# Altium integrated library Actel ProASIC3E.IntLib: 182 symbols (part 14 of 52)
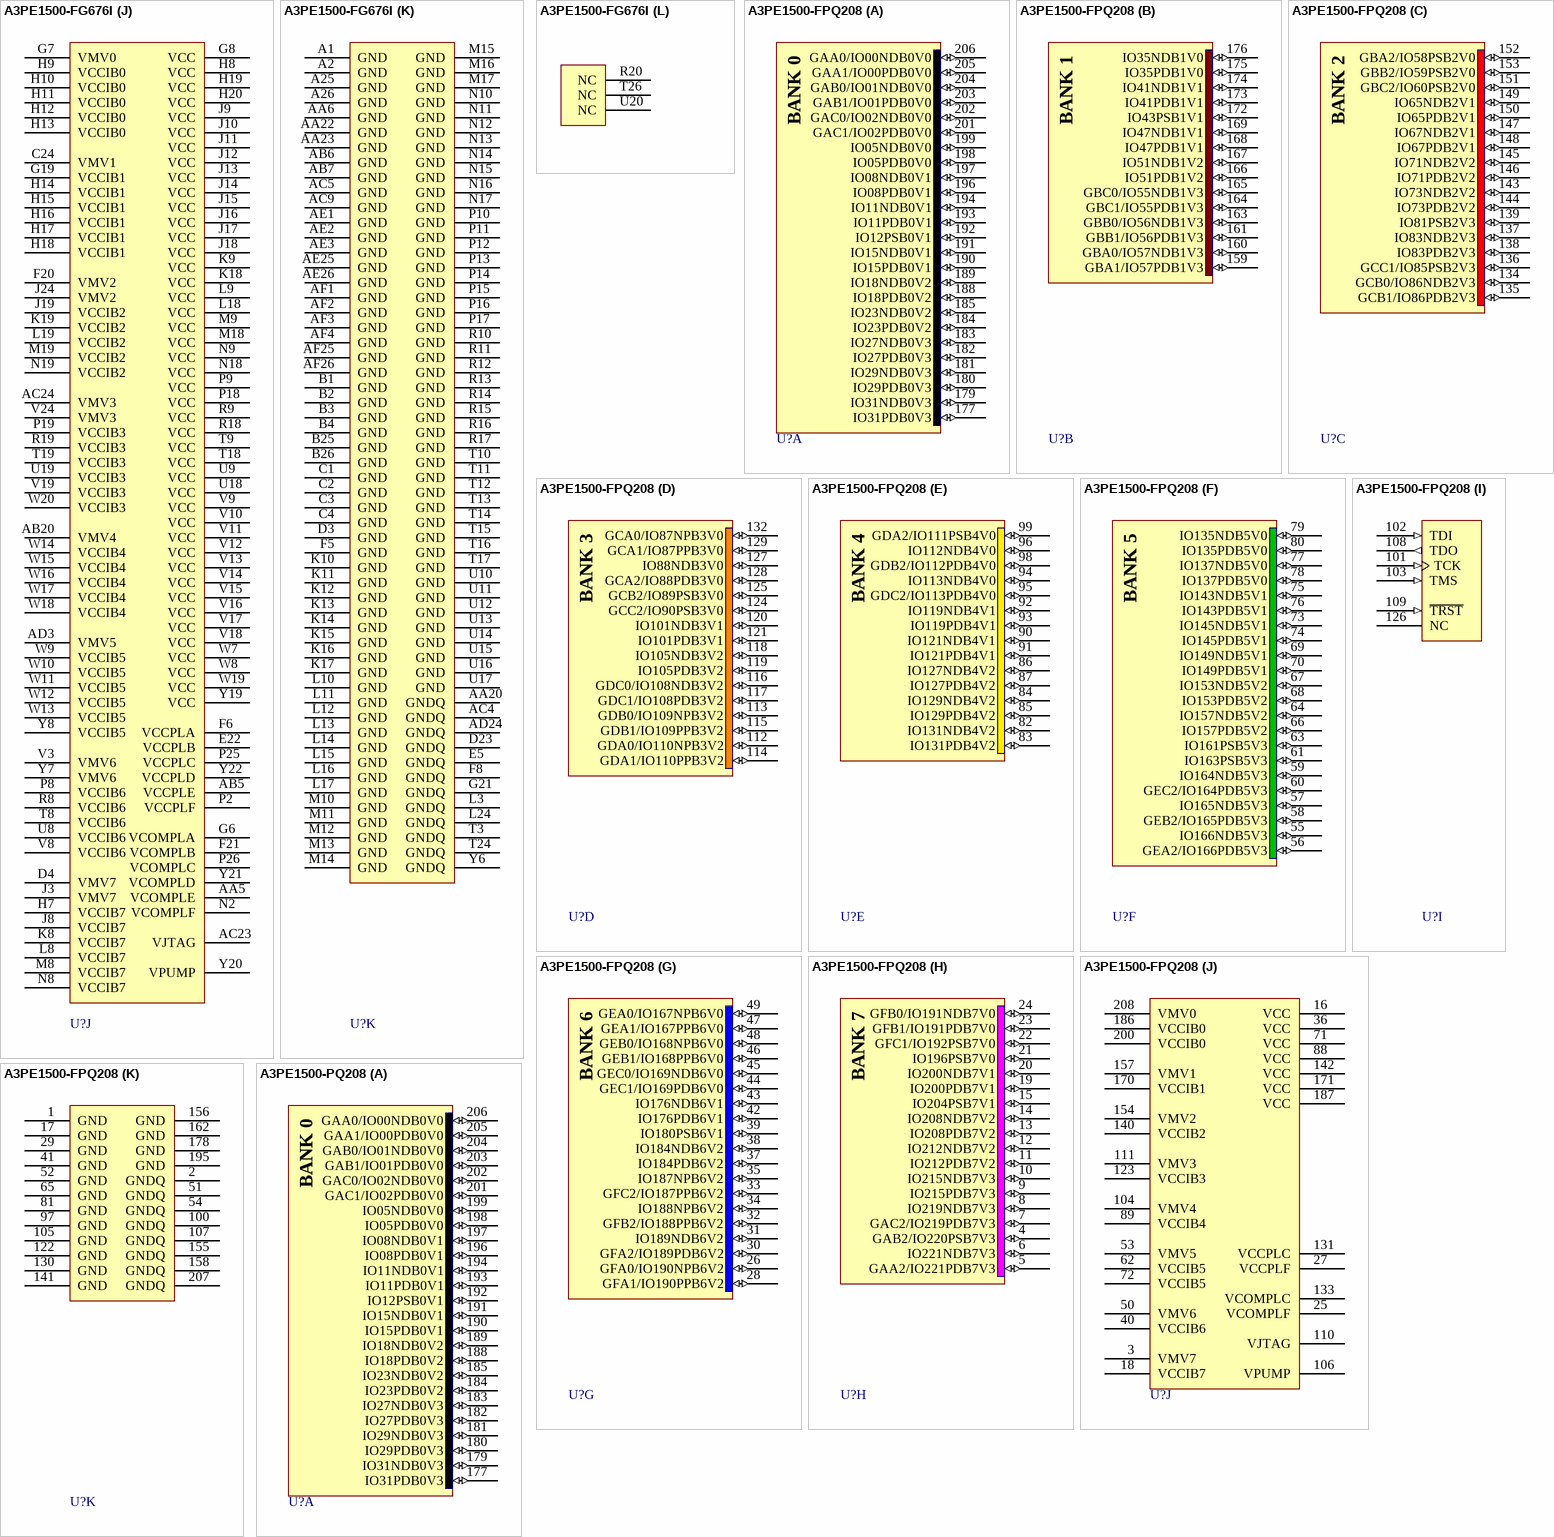
[diagram p222: symbols A3PE1500-FG676I to A3PE1500-PQ208]

## A3PE1500-FPQ208
designator U?
ProASIC3E Flash Family FPGA, 147 User IOs, 1.5M System Gates, 270 Kbits RAM, 1 Kbit FlashROM, 2 PLLs, 208-Pin PQFP, Commercial Grade; Published: 4-Mar-2005; LatestRevisionDate: 14-May-2007; LatestRevisionNote: Pinout changed to match Apr-2007 datasheet.; DatasheetVersion: v1.1, Feb-2009; PackageVersion: ver11.2, Nov-2009; PackageReference: PQ208; Publisher: Altium Limited; PackageDescription: 208-Pin Plastic Quad Flat Pack (PQ208); Code_JEDEC: MS-029-FA-1; ComponentLink1Description: ProASIC3 Datasheet; ComponentLink1URL: http://www.actel.com/documents/PA3E_DS.pdf; ComponentLink2Description: Package Mechanical Drawings; ComponentLink2URL: http://www.actel.com/documents/PckgMechDrwngs.pdf; ComponentLink3Description: ProASIC3 Documents; ComponentLink3URL: http://www.actel.com/products/pa3/docs.aspx; ComponentLink4Description: Actel.com Home; ComponentLink4URL: http://www.actel.com/
footprint PQ208_N (Shrink QFP, 208-Leads, Body 28x28mm, Pitch 0.5mm, IPC Medium Density)
footprint PQ208_L (Shrink QFP, 208-Leads, Body 28x28mm, Pitch 0.5mm, IPC High Density)
footprint PQ208_M (Shrink QFP, 208-Leads, Body 28x28mm, Pitch 0.5mm, IPC Low Density)
signal-integrity model A3PE1500_PQ208 (ProASIC3E)
part A pins: 177 IO31PDB0V3 (io), 179 IO31NDB0V3 (io), 180 IO29PDB0V3 (io), 181 IO29NDB0V3 (io), 182 IO27PDB0V3 (io), 183 IO27NDB0V3 (io), 184 IO23PDB0V2 (io), 185 IO23NDB0V2 (io), 188 IO18PDB0V2 (io), 189 IO18NDB0V2 (io), 190 IO15PDB0V1 (io), 191 IO15NDB0V1 (io), 192 IO12PSB0V1 (io), 193 IO11PDB0V1 (io), 194 IO11NDB0V1 (io), 196 IO08PDB0V1 (io), 197 IO08NDB0V1 (io), 198 IO05PDB0V0 (io), 199 IO05NDB0V0 (io), 201 GAC1/IO02PDB0V0 (io), 202 GAC0/IO02NDB0V0 (io), 203 GAB1/IO01PDB0V0 (io), 204 GAB0/IO01NDB0V0 (io), 205 GAA1/IO00PDB0V0 (io), 206 GAA0/IO00NDB0V0 (io)
part B pins: 159 GBA1/IO57PDB1V3 (io), 160 GBA0/IO57NDB1V3 (io), 161 GBB1/IO56PDB1V3 (io), 163 GBB0/IO56NDB1V3 (io), 164 GBC1/IO55PDB1V3 (io), 165 GBC0/IO55NDB1V3 (io), 166 IO51PDB1V2 (io), 167 IO51NDB1V2 (io), 168 IO47PDB1V1 (io), 169 IO47NDB1V1 (io), 172 IO43PSB1V1 (io), 173 IO41PDB1V1 (io), 174 IO41NDB1V1 (io), 175 IO35PDB1V0 (io), 176 IO35NDB1V0 (io)
part C pins: 134 GCB0/IO86NDB2V3 (io), 135 GCB1/IO86PDB2V3 (io), 136 GCC1/IO85PSB2V3 (io), 137 IO83NDB2V3 (io), 138 IO83PDB2V3 (io), 139 IO81PSB2V3 (io), 143 IO73NDB2V2 (io), 144 IO73PDB2V2 (io), 145 IO71NDB2V2 (io), 146 IO71PDB2V2 (io), 147 IO67NDB2V1 (io), 148 IO67PDB2V1 (io), 149 IO65NDB2V1 (io), 150 IO65PDB2V1 (io), 151 GBC2/IO60PSB2V0 (io), 152 GBA2/IO58PSB2V0 (io), 153 GBB2/IO59PSB2V0 (io)
part D pins: 112 GDA0/IO110NPB3V2 (io), 113 GDB0/IO109NPB3V2 (io), 114 GDA1/IO110PPB3V2 (io), 115 GDB1/IO109PPB3V2 (io), 116 GDC0/IO108NDB3V2 (io), 117 GDC1/IO108PDB3V2 (io), 118 IO105NDB3V2 (io), 119 IO105PDB3V2 (io), 120 IO101NDB3V1 (io), 121 IO101PDB3V1 (io), 124 GCC2/IO90PSB3V0 (io), 125 GCB2/IO89PSB3V0 (io), 127 IO88NDB3V0 (io), 128 GCA2/IO88PDB3V0 (io), 129 GCA1/IO87PPB3V0 (io), 132 GCA0/IO87NPB3V0 (io)
part E pins: 82 IO131NDB4V2 (io), 83 IO131PDB4V2 (io), 84 IO129NDB4V2 (io), 85 IO129PDB4V2 (io), 86 IO127NDB4V2 (io), 87 IO127PDB4V2 (io), 90 IO121NDB4V1 (io), 91 IO121PDB4V1 (io), 92 IO119NDB4V1 (io), 93 IO119PDB4V1 (io), 94 IO113NDB4V0 (io), 95 GDC2/IO113PDB4V0 (io), 96 IO112NDB4V0 (io), 98 GDB2/IO112PDB4V0 (io), 99 GDA2/IO111PSB4V0 (io)
part F pins: 55 IO166NDB5V3 (io), 56 GEA2/IO166PDB5V3 (io), 57 IO165NDB5V3 (io), 58 GEB2/IO165PDB5V3 (io), 59 IO164NDB5V3 (io), 60 GEC2/IO164PDB5V3 (io), 61 IO163PSB5V3 (io), 63 IO161PSB5V3 (io), 64 IO157NDB5V2 (io), 66 IO157PDB5V2 (io), 67 IO153NDB5V2 (io), 68 IO153PDB5V2 (io), 69 IO149NDB5V1 (io), 70 IO149PDB5V1 (io), 73 IO145NDB5V1 (io), 74 IO145PDB5V1 (io), 75 IO143NDB5V1 (io), 76 IO143PDB5V1 (io), 77 IO137NDB5V0 (io), 78 IO137PDB5V0 (io), 79 IO135NDB5V0 (io), 80 IO135PDB5V0 (io)
part G pins: 26 GFA0/IO190NPB6V2 (io), 28 GFA1/IO190PPB6V2 (io), 30 GFA2/IO189PDB6V2 (io), 31 IO189NDB6V2 (io), 32 GFB2/IO188PPB6V2 (io), 33 GFC2/IO187PPB6V2 (io), 34 IO188NPB6V2 (io), 35 IO187NPB6V2 (io), 37 IO184PDB6V2 (io), 38 IO184NDB6V2 (io), 39 IO180PSB6V1 (io), 42 IO176PDB6V1 (io), 43 IO176NDB6V1 (io), 44 GEC1/IO169PDB6V0 (io), 45 GEC0/IO169NDB6V0 (io), 46 GEB1/IO168PPB6V0 (io), 47 GEA1/IO167PPB6V0 (io), 48 GEB0/IO168NPB6V0 (io), 49 GEA0/IO167NPB6V0 (io)
part H pins: 4 GAB2/IO220PSB7V3 (io), 5 GAA2/IO221PDB7V3 (io), 6 IO221NDB7V3 (io), 7 GAC2/IO219PDB7V3 (io), 8 IO219NDB7V3 (io), 9 IO215PDB7V3 (io), 10 IO215NDB7V3 (io), 11 IO212PDB7V2 (io), 12 IO212NDB7V2 (io), 13 IO208PDB7V2 (io), 14 IO208NDB7V2 (io), 15 IO204PSB7V1 (io), 19 IO200PDB7V1 (io), 20 IO200NDB7V1 (io), 21 IO196PSB7V0 (io), 22 GFC1/IO192PSB7V0 (io), 23 GFB1/IO191PDB7V0 (io), 24 GFB0/IO191NDB7V0 (io)
part I pins: 101 TCK (in), 102 TDI (in), 103 TMS (in), 108 TDO (out), 109 ~{TRST} (in), 126 NC
part J pins: 3 VMV7 (power), 16 VCC (power), 18 VCCIB7 (power), 25 VCOMPLF (power), 27 VCCPLF (power), 36 VCC (power), 40 VCCIB6 (power), 50 VMV6 (power), 53 VMV5 (power), 62 VCCIB5 (power), 71 VCC (power), 72 VCCIB5 (power), 88 VCC (power), 89 VCCIB4 (power), 104 VMV4 (power), 106 VPUMP (power), 110 VJTAG (power), 111 VMV3 (power), 123 VCCIB3 (power), 131 VCCPLC (power), 133 VCOMPLC (power), 140 VCCIB2 (power), 142 VCC (power), 154 VMV2 (power), 157 VMV1 (power), 170 VCCIB1 (power), 171 VCC (power), 186 VCCIB0 (power), 187 VCC (power), 200 VCCIB0 (power), 208 VMV0 (power)
part K pins: 1 GND (power), 2 GNDQ (power), 17 GND (power), 29 GND (power), 41 GND (power), 51 GNDQ (power), 52 GND (power), 54 GNDQ (power), 65 GND (power), 81 GND (power), 97 GND (power), 100 GNDQ (power), 105 GND (power), 107 GNDQ (power), 122 GND (power), 130 GND (power), 141 GND (power), 155 GNDQ (power), 156 GND (power), 158 GNDQ (power), 162 GND (power), 178 GND (power), 195 GND (power), 207 GNDQ (power)
part A text: BANK 0
part B text: BANK 1
part C text: BANK 2
part D text: BANK 3
part E text: BANK 4
part F text: BANK 5
part G text: BANK 6
part H text: BANK 7

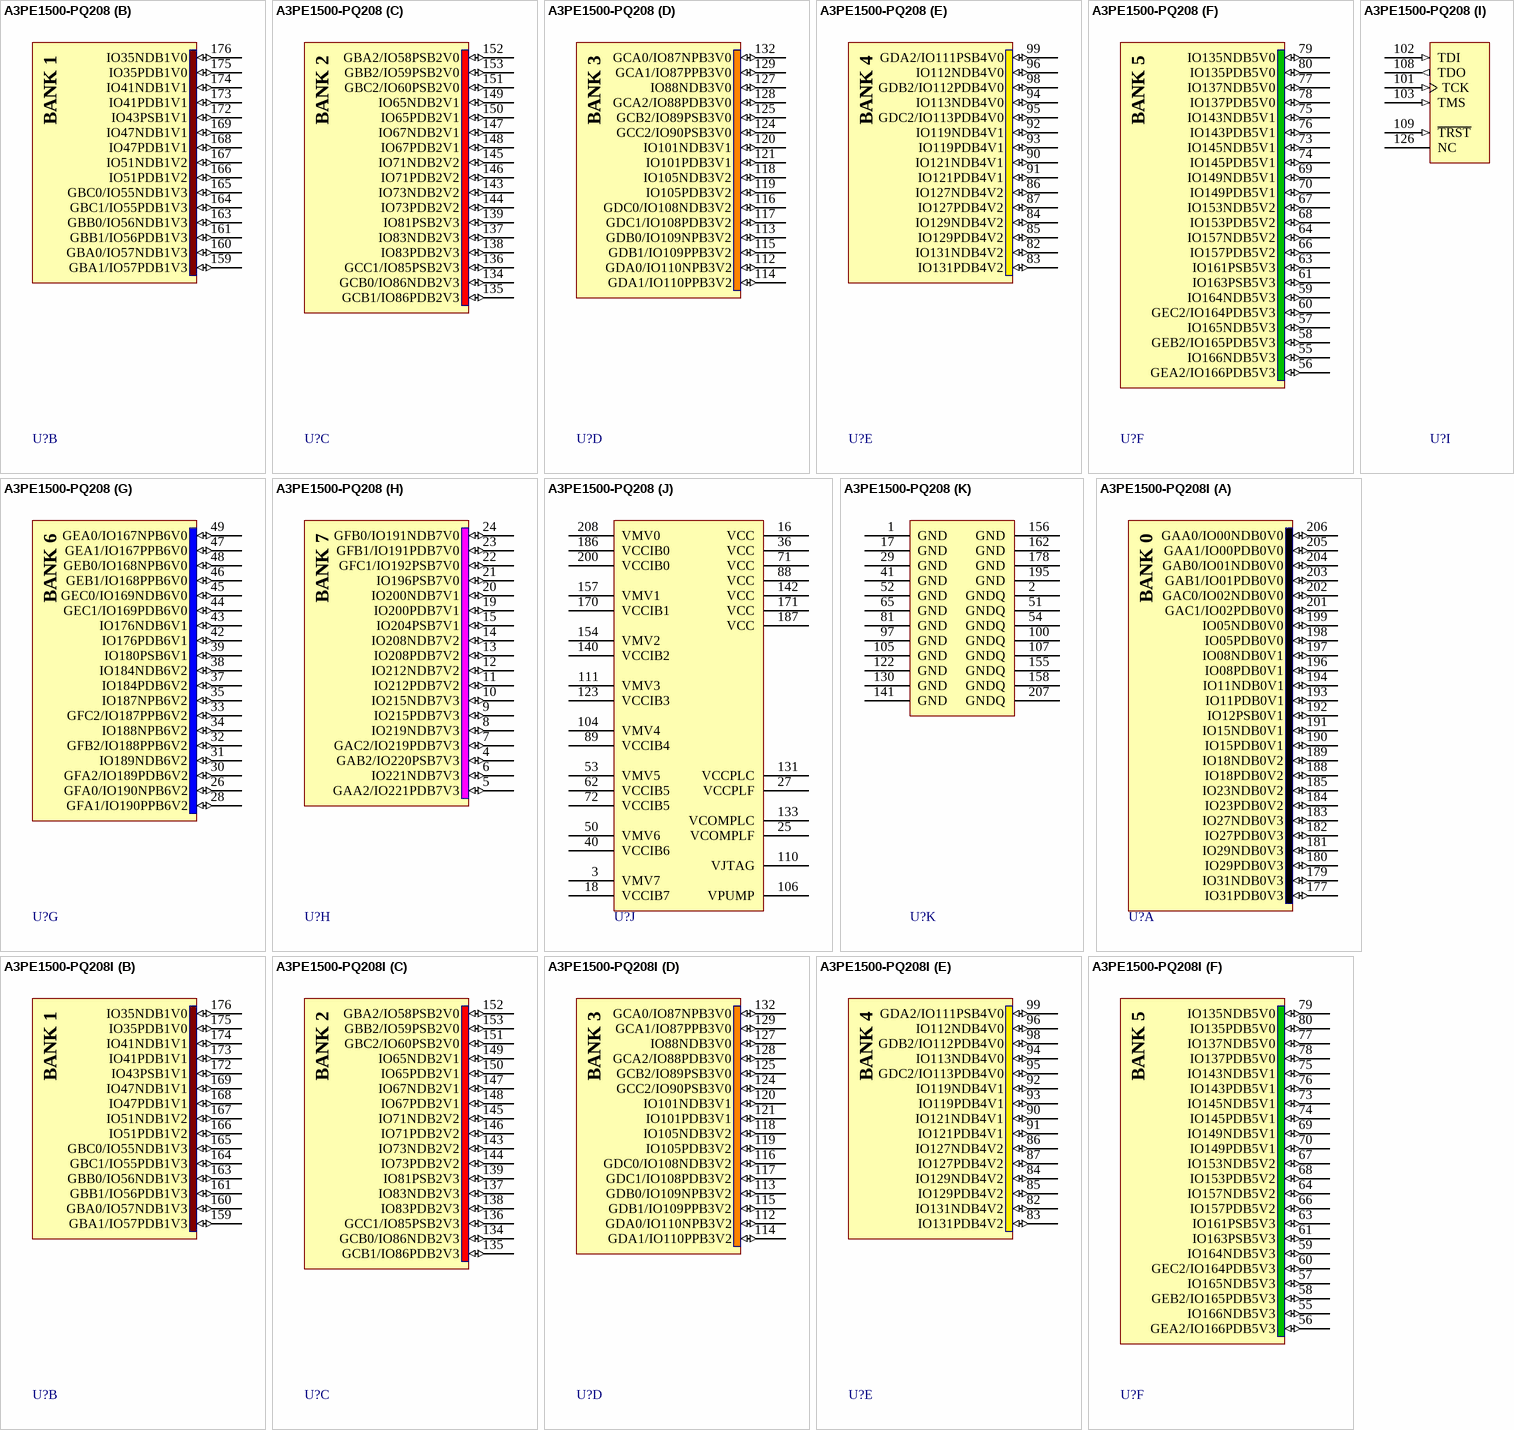
[diagram p44: symbols A3PE1500-PQ208 to A3PE1500-PQ208I]

## A3PE1500-PQ208
designator U?
ProASIC3E Flash Family FPGA, 147 User IOs, 1.5M System Gates, 270 Kbits RAM, 1 Kbit FlashROM, 2 PLLs, 208-Pin PQFP, Commercial Grade; Published: 4-Mar-2005; LatestRevisionDate: 14-May-2007; LatestRevisionNote: Pinout changed to match Apr-2007 datasheet.; DatasheetVersion: v1.1, Feb-2009; PackageVersion: ver11.2, Nov-2009; PackageReference: PQ208; Publisher: Altium Limited; PackageDescription: 208-Pin Plastic Quad Flat Pack (PQ208); Code_JEDEC: MS-029-FA-1; ComponentLink1Description: ProASIC3 Datasheet; ComponentLink1URL: http://www.actel.com/documents/PA3E_DS.pdf; ComponentLink2Description: Package Mechanical Drawings; ComponentLink2URL: http://www.actel.com/documents/PckgMechDrwngs.pdf; ComponentLink3Description: ProASIC3 Documents; ComponentLink3URL: http://www.actel.com/products/pa3/docs.aspx; ComponentLink4Description: Actel.com Home; ComponentLink4URL: http://www.actel.com/
footprint PQ208_N (Shrink QFP, 208-Leads, Body 28x28mm, Pitch 0.5mm, IPC Medium Density)
footprint PQ208_L (Shrink QFP, 208-Leads, Body 28x28mm, Pitch 0.5mm, IPC High Density)
footprint PQ208_M (Shrink QFP, 208-Leads, Body 28x28mm, Pitch 0.5mm, IPC Low Density)
signal-integrity model A3PE1500_PQ208 (ProASIC3E)
part A pins: 177 IO31PDB0V3 (io), 179 IO31NDB0V3 (io), 180 IO29PDB0V3 (io), 181 IO29NDB0V3 (io), 182 IO27PDB0V3 (io), 183 IO27NDB0V3 (io), 184 IO23PDB0V2 (io), 185 IO23NDB0V2 (io), 188 IO18PDB0V2 (io), 189 IO18NDB0V2 (io), 190 IO15PDB0V1 (io), 191 IO15NDB0V1 (io), 192 IO12PSB0V1 (io), 193 IO11PDB0V1 (io), 194 IO11NDB0V1 (io), 196 IO08PDB0V1 (io), 197 IO08NDB0V1 (io), 198 IO05PDB0V0 (io), 199 IO05NDB0V0 (io), 201 GAC1/IO02PDB0V0 (io), 202 GAC0/IO02NDB0V0 (io), 203 GAB1/IO01PDB0V0 (io), 204 GAB0/IO01NDB0V0 (io), 205 GAA1/IO00PDB0V0 (io), 206 GAA0/IO00NDB0V0 (io)
part B pins: 159 GBA1/IO57PDB1V3 (io), 160 GBA0/IO57NDB1V3 (io), 161 GBB1/IO56PDB1V3 (io), 163 GBB0/IO56NDB1V3 (io), 164 GBC1/IO55PDB1V3 (io), 165 GBC0/IO55NDB1V3 (io), 166 IO51PDB1V2 (io), 167 IO51NDB1V2 (io), 168 IO47PDB1V1 (io), 169 IO47NDB1V1 (io), 172 IO43PSB1V1 (io), 173 IO41PDB1V1 (io), 174 IO41NDB1V1 (io), 175 IO35PDB1V0 (io), 176 IO35NDB1V0 (io)
part C pins: 134 GCB0/IO86NDB2V3 (io), 135 GCB1/IO86PDB2V3 (io), 136 GCC1/IO85PSB2V3 (io), 137 IO83NDB2V3 (io), 138 IO83PDB2V3 (io), 139 IO81PSB2V3 (io), 143 IO73NDB2V2 (io), 144 IO73PDB2V2 (io), 145 IO71NDB2V2 (io), 146 IO71PDB2V2 (io), 147 IO67NDB2V1 (io), 148 IO67PDB2V1 (io), 149 IO65NDB2V1 (io), 150 IO65PDB2V1 (io), 151 GBC2/IO60PSB2V0 (io), 152 GBA2/IO58PSB2V0 (io), 153 GBB2/IO59PSB2V0 (io)
part D pins: 112 GDA0/IO110NPB3V2 (io), 113 GDB0/IO109NPB3V2 (io), 114 GDA1/IO110PPB3V2 (io), 115 GDB1/IO109PPB3V2 (io), 116 GDC0/IO108NDB3V2 (io), 117 GDC1/IO108PDB3V2 (io), 118 IO105NDB3V2 (io), 119 IO105PDB3V2 (io), 120 IO101NDB3V1 (io), 121 IO101PDB3V1 (io), 124 GCC2/IO90PSB3V0 (io), 125 GCB2/IO89PSB3V0 (io), 127 IO88NDB3V0 (io), 128 GCA2/IO88PDB3V0 (io), 129 GCA1/IO87PPB3V0 (io), 132 GCA0/IO87NPB3V0 (io)
part E pins: 82 IO131NDB4V2 (io), 83 IO131PDB4V2 (io), 84 IO129NDB4V2 (io), 85 IO129PDB4V2 (io), 86 IO127NDB4V2 (io), 87 IO127PDB4V2 (io), 90 IO121NDB4V1 (io), 91 IO121PDB4V1 (io), 92 IO119NDB4V1 (io), 93 IO119PDB4V1 (io), 94 IO113NDB4V0 (io), 95 GDC2/IO113PDB4V0 (io), 96 IO112NDB4V0 (io), 98 GDB2/IO112PDB4V0 (io), 99 GDA2/IO111PSB4V0 (io)
part F pins: 55 IO166NDB5V3 (io), 56 GEA2/IO166PDB5V3 (io), 57 IO165NDB5V3 (io), 58 GEB2/IO165PDB5V3 (io), 59 IO164NDB5V3 (io), 60 GEC2/IO164PDB5V3 (io), 61 IO163PSB5V3 (io), 63 IO161PSB5V3 (io), 64 IO157NDB5V2 (io), 66 IO157PDB5V2 (io), 67 IO153NDB5V2 (io), 68 IO153PDB5V2 (io), 69 IO149NDB5V1 (io), 70 IO149PDB5V1 (io), 73 IO145NDB5V1 (io), 74 IO145PDB5V1 (io), 75 IO143NDB5V1 (io), 76 IO143PDB5V1 (io), 77 IO137NDB5V0 (io), 78 IO137PDB5V0 (io), 79 IO135NDB5V0 (io), 80 IO135PDB5V0 (io)
part G pins: 26 GFA0/IO190NPB6V2 (io), 28 GFA1/IO190PPB6V2 (io), 30 GFA2/IO189PDB6V2 (io), 31 IO189NDB6V2 (io), 32 GFB2/IO188PPB6V2 (io), 33 GFC2/IO187PPB6V2 (io), 34 IO188NPB6V2 (io), 35 IO187NPB6V2 (io), 37 IO184PDB6V2 (io), 38 IO184NDB6V2 (io), 39 IO180PSB6V1 (io), 42 IO176PDB6V1 (io), 43 IO176NDB6V1 (io), 44 GEC1/IO169PDB6V0 (io), 45 GEC0/IO169NDB6V0 (io), 46 GEB1/IO168PPB6V0 (io), 47 GEA1/IO167PPB6V0 (io), 48 GEB0/IO168NPB6V0 (io), 49 GEA0/IO167NPB6V0 (io)
part H pins: 4 GAB2/IO220PSB7V3 (io), 5 GAA2/IO221PDB7V3 (io), 6 IO221NDB7V3 (io), 7 GAC2/IO219PDB7V3 (io), 8 IO219NDB7V3 (io), 9 IO215PDB7V3 (io), 10 IO215NDB7V3 (io), 11 IO212PDB7V2 (io), 12 IO212NDB7V2 (io), 13 IO208PDB7V2 (io), 14 IO208NDB7V2 (io), 15 IO204PSB7V1 (io), 19 IO200PDB7V1 (io), 20 IO200NDB7V1 (io), 21 IO196PSB7V0 (io), 22 GFC1/IO192PSB7V0 (io), 23 GFB1/IO191PDB7V0 (io), 24 GFB0/IO191NDB7V0 (io)
part I pins: 101 TCK (in), 102 TDI (in), 103 TMS (in), 108 TDO (out), 109 ~{TRST} (in), 126 NC
part J pins: 3 VMV7 (power), 16 VCC (power), 18 VCCIB7 (power), 25 VCOMPLF (power), 27 VCCPLF (power), 36 VCC (power), 40 VCCIB6 (power), 50 VMV6 (power), 53 VMV5 (power), 62 VCCIB5 (power), 71 VCC (power), 72 VCCIB5 (power), 88 VCC (power), 89 VCCIB4 (power), 104 VMV4 (power), 106 VPUMP (power), 110 VJTAG (power), 111 VMV3 (power), 123 VCCIB3 (power), 131 VCCPLC (power), 133 VCOMPLC (power), 140 VCCIB2 (power), 142 VCC (power), 154 VMV2 (power), 157 VMV1 (power), 170 VCCIB1 (power), 171 VCC (power), 186 VCCIB0 (power), 187 VCC (power), 200 VCCIB0 (power), 208 VMV0 (power)
part K pins: 1 GND (power), 2 GNDQ (power), 17 GND (power), 29 GND (power), 41 GND (power), 51 GNDQ (power), 52 GND (power), 54 GNDQ (power), 65 GND (power), 81 GND (power), 97 GND (power), 100 GNDQ (power), 105 GND (power), 107 GNDQ (power), 122 GND (power), 130 GND (power), 141 GND (power), 155 GNDQ (power), 156 GND (power), 158 GNDQ (power), 162 GND (power), 178 GND (power), 195 GND (power), 207 GNDQ (power)
part A text: BANK 0
part B text: BANK 1
part C text: BANK 2
part D text: BANK 3
part E text: BANK 4
part F text: BANK 5
part G text: BANK 6
part H text: BANK 7

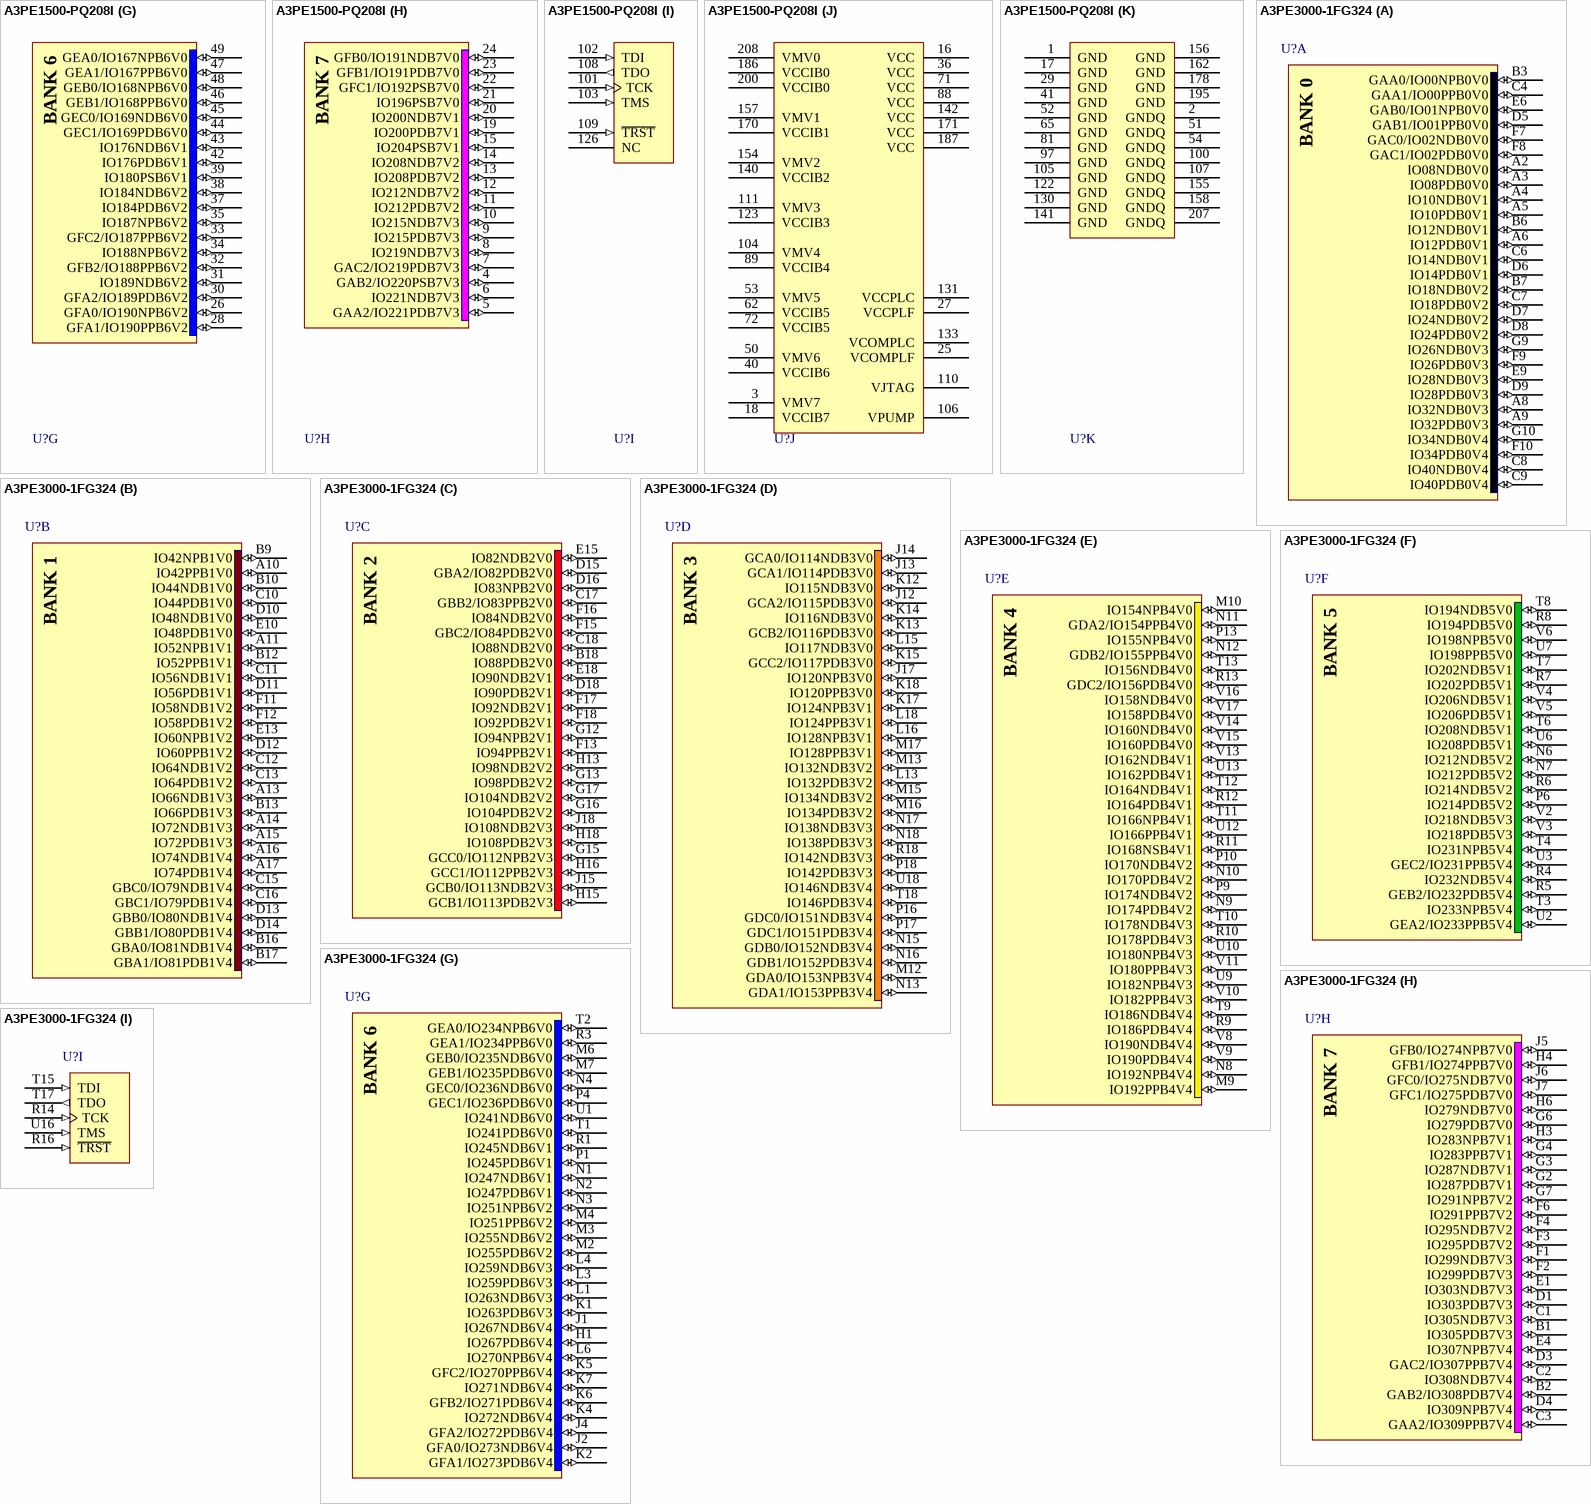
[diagram p45: symbols A3PE1500-PQ208I to A3PE3000-1FG324]

## A3PE1500-PQ208I
designator U?
ProASIC3E Flash Family FPGA, 147 User IOs, 1.5M System Gates, 270 Kbits RAM, 1 Kbit FlashROM, 2 PLLs, 208-Pin PQFP, Industrial Grade; Published: 4-Mar-2005; LatestRevisionDate: 14-May-2007; LatestRevisionNote: Pinout changed to match Apr-2007 datasheet.; DatasheetVersion: v1.1, Feb-2009; PackageVersion: ver11.2, Nov-2009; PackageReference: PQ208; Publisher: Altium Limited; PackageDescription: 208-Pin Plastic Quad Flat Pack (PQ208); Code_JEDEC: MS-029-FA-1; ComponentLink1Description: ProASIC3 Datasheet; ComponentLink1URL: http://www.actel.com/documents/PA3E_DS.pdf; ComponentLink2Description: Package Mechanical Drawings; ComponentLink2URL: http://www.actel.com/documents/PckgMechDrwngs.pdf; ComponentLink3Description: ProASIC3 Documents; ComponentLink3URL: http://www.actel.com/products/pa3/docs.aspx; ComponentLink4Description: Actel.com Home; ComponentLink4URL: http://www.actel.com/
footprint PQ208_N (Shrink QFP, 208-Leads, Body 28x28mm, Pitch 0.5mm, IPC Medium Density)
footprint PQ208_L (Shrink QFP, 208-Leads, Body 28x28mm, Pitch 0.5mm, IPC High Density)
footprint PQ208_M (Shrink QFP, 208-Leads, Body 28x28mm, Pitch 0.5mm, IPC Low Density)
signal-integrity model A3PE1500_PQ208 (ProASIC3E)
part A pins: 177 IO31PDB0V3 (io), 179 IO31NDB0V3 (io), 180 IO29PDB0V3 (io), 181 IO29NDB0V3 (io), 182 IO27PDB0V3 (io), 183 IO27NDB0V3 (io), 184 IO23PDB0V2 (io), 185 IO23NDB0V2 (io), 188 IO18PDB0V2 (io), 189 IO18NDB0V2 (io), 190 IO15PDB0V1 (io), 191 IO15NDB0V1 (io), 192 IO12PSB0V1 (io), 193 IO11PDB0V1 (io), 194 IO11NDB0V1 (io), 196 IO08PDB0V1 (io), 197 IO08NDB0V1 (io), 198 IO05PDB0V0 (io), 199 IO05NDB0V0 (io), 201 GAC1/IO02PDB0V0 (io), 202 GAC0/IO02NDB0V0 (io), 203 GAB1/IO01PDB0V0 (io), 204 GAB0/IO01NDB0V0 (io), 205 GAA1/IO00PDB0V0 (io), 206 GAA0/IO00NDB0V0 (io)
part B pins: 159 GBA1/IO57PDB1V3 (io), 160 GBA0/IO57NDB1V3 (io), 161 GBB1/IO56PDB1V3 (io), 163 GBB0/IO56NDB1V3 (io), 164 GBC1/IO55PDB1V3 (io), 165 GBC0/IO55NDB1V3 (io), 166 IO51PDB1V2 (io), 167 IO51NDB1V2 (io), 168 IO47PDB1V1 (io), 169 IO47NDB1V1 (io), 172 IO43PSB1V1 (io), 173 IO41PDB1V1 (io), 174 IO41NDB1V1 (io), 175 IO35PDB1V0 (io), 176 IO35NDB1V0 (io)
part C pins: 134 GCB0/IO86NDB2V3 (io), 135 GCB1/IO86PDB2V3 (io), 136 GCC1/IO85PSB2V3 (io), 137 IO83NDB2V3 (io), 138 IO83PDB2V3 (io), 139 IO81PSB2V3 (io), 143 IO73NDB2V2 (io), 144 IO73PDB2V2 (io), 145 IO71NDB2V2 (io), 146 IO71PDB2V2 (io), 147 IO67NDB2V1 (io), 148 IO67PDB2V1 (io), 149 IO65NDB2V1 (io), 150 IO65PDB2V1 (io), 151 GBC2/IO60PSB2V0 (io), 152 GBA2/IO58PSB2V0 (io), 153 GBB2/IO59PSB2V0 (io)
part D pins: 112 GDA0/IO110NPB3V2 (io), 113 GDB0/IO109NPB3V2 (io), 114 GDA1/IO110PPB3V2 (io), 115 GDB1/IO109PPB3V2 (io), 116 GDC0/IO108NDB3V2 (io), 117 GDC1/IO108PDB3V2 (io), 118 IO105NDB3V2 (io), 119 IO105PDB3V2 (io), 120 IO101NDB3V1 (io), 121 IO101PDB3V1 (io), 124 GCC2/IO90PSB3V0 (io), 125 GCB2/IO89PSB3V0 (io), 127 IO88NDB3V0 (io), 128 GCA2/IO88PDB3V0 (io), 129 GCA1/IO87PPB3V0 (io), 132 GCA0/IO87NPB3V0 (io)
part E pins: 82 IO131NDB4V2 (io), 83 IO131PDB4V2 (io), 84 IO129NDB4V2 (io), 85 IO129PDB4V2 (io), 86 IO127NDB4V2 (io), 87 IO127PDB4V2 (io), 90 IO121NDB4V1 (io), 91 IO121PDB4V1 (io), 92 IO119NDB4V1 (io), 93 IO119PDB4V1 (io), 94 IO113NDB4V0 (io), 95 GDC2/IO113PDB4V0 (io), 96 IO112NDB4V0 (io), 98 GDB2/IO112PDB4V0 (io), 99 GDA2/IO111PSB4V0 (io)
part F pins: 55 IO166NDB5V3 (io), 56 GEA2/IO166PDB5V3 (io), 57 IO165NDB5V3 (io), 58 GEB2/IO165PDB5V3 (io), 59 IO164NDB5V3 (io), 60 GEC2/IO164PDB5V3 (io), 61 IO163PSB5V3 (io), 63 IO161PSB5V3 (io), 64 IO157NDB5V2 (io), 66 IO157PDB5V2 (io), 67 IO153NDB5V2 (io), 68 IO153PDB5V2 (io), 69 IO149NDB5V1 (io), 70 IO149PDB5V1 (io), 73 IO145NDB5V1 (io), 74 IO145PDB5V1 (io), 75 IO143NDB5V1 (io), 76 IO143PDB5V1 (io), 77 IO137NDB5V0 (io), 78 IO137PDB5V0 (io), 79 IO135NDB5V0 (io), 80 IO135PDB5V0 (io)
part G pins: 26 GFA0/IO190NPB6V2 (io), 28 GFA1/IO190PPB6V2 (io), 30 GFA2/IO189PDB6V2 (io), 31 IO189NDB6V2 (io), 32 GFB2/IO188PPB6V2 (io), 33 GFC2/IO187PPB6V2 (io), 34 IO188NPB6V2 (io), 35 IO187NPB6V2 (io), 37 IO184PDB6V2 (io), 38 IO184NDB6V2 (io), 39 IO180PSB6V1 (io), 42 IO176PDB6V1 (io), 43 IO176NDB6V1 (io), 44 GEC1/IO169PDB6V0 (io), 45 GEC0/IO169NDB6V0 (io), 46 GEB1/IO168PPB6V0 (io), 47 GEA1/IO167PPB6V0 (io), 48 GEB0/IO168NPB6V0 (io), 49 GEA0/IO167NPB6V0 (io)
part H pins: 4 GAB2/IO220PSB7V3 (io), 5 GAA2/IO221PDB7V3 (io), 6 IO221NDB7V3 (io), 7 GAC2/IO219PDB7V3 (io), 8 IO219NDB7V3 (io), 9 IO215PDB7V3 (io), 10 IO215NDB7V3 (io), 11 IO212PDB7V2 (io), 12 IO212NDB7V2 (io), 13 IO208PDB7V2 (io), 14 IO208NDB7V2 (io), 15 IO204PSB7V1 (io), 19 IO200PDB7V1 (io), 20 IO200NDB7V1 (io), 21 IO196PSB7V0 (io), 22 GFC1/IO192PSB7V0 (io), 23 GFB1/IO191PDB7V0 (io), 24 GFB0/IO191NDB7V0 (io)
part I pins: 101 TCK (in), 102 TDI (in), 103 TMS (in), 108 TDO (out), 109 ~{TRST} (in), 126 NC
part J pins: 3 VMV7 (power), 16 VCC (power), 18 VCCIB7 (power), 25 VCOMPLF (power), 27 VCCPLF (power), 36 VCC (power), 40 VCCIB6 (power), 50 VMV6 (power), 53 VMV5 (power), 62 VCCIB5 (power), 71 VCC (power), 72 VCCIB5 (power), 88 VCC (power), 89 VCCIB4 (power), 104 VMV4 (power), 106 VPUMP (power), 110 VJTAG (power), 111 VMV3 (power), 123 VCCIB3 (power), 131 VCCPLC (power), 133 VCOMPLC (power), 140 VCCIB2 (power), 142 VCC (power), 154 VMV2 (power), 157 VMV1 (power), 170 VCCIB1 (power), 171 VCC (power), 186 VCCIB0 (power), 187 VCC (power), 200 VCCIB0 (power), 208 VMV0 (power)
part K pins: 1 GND (power), 2 GNDQ (power), 17 GND (power), 29 GND (power), 41 GND (power), 51 GNDQ (power), 52 GND (power), 54 GNDQ (power), 65 GND (power), 81 GND (power), 97 GND (power), 100 GNDQ (power), 105 GND (power), 107 GNDQ (power), 122 GND (power), 130 GND (power), 141 GND (power), 155 GNDQ (power), 156 GND (power), 158 GNDQ (power), 162 GND (power), 178 GND (power), 195 GND (power), 207 GNDQ (power)
part A text: BANK 0
part B text: BANK 1
part C text: BANK 2
part D text: BANK 3
part E text: BANK 4
part F text: BANK 5
part G text: BANK 6
part H text: BANK 7

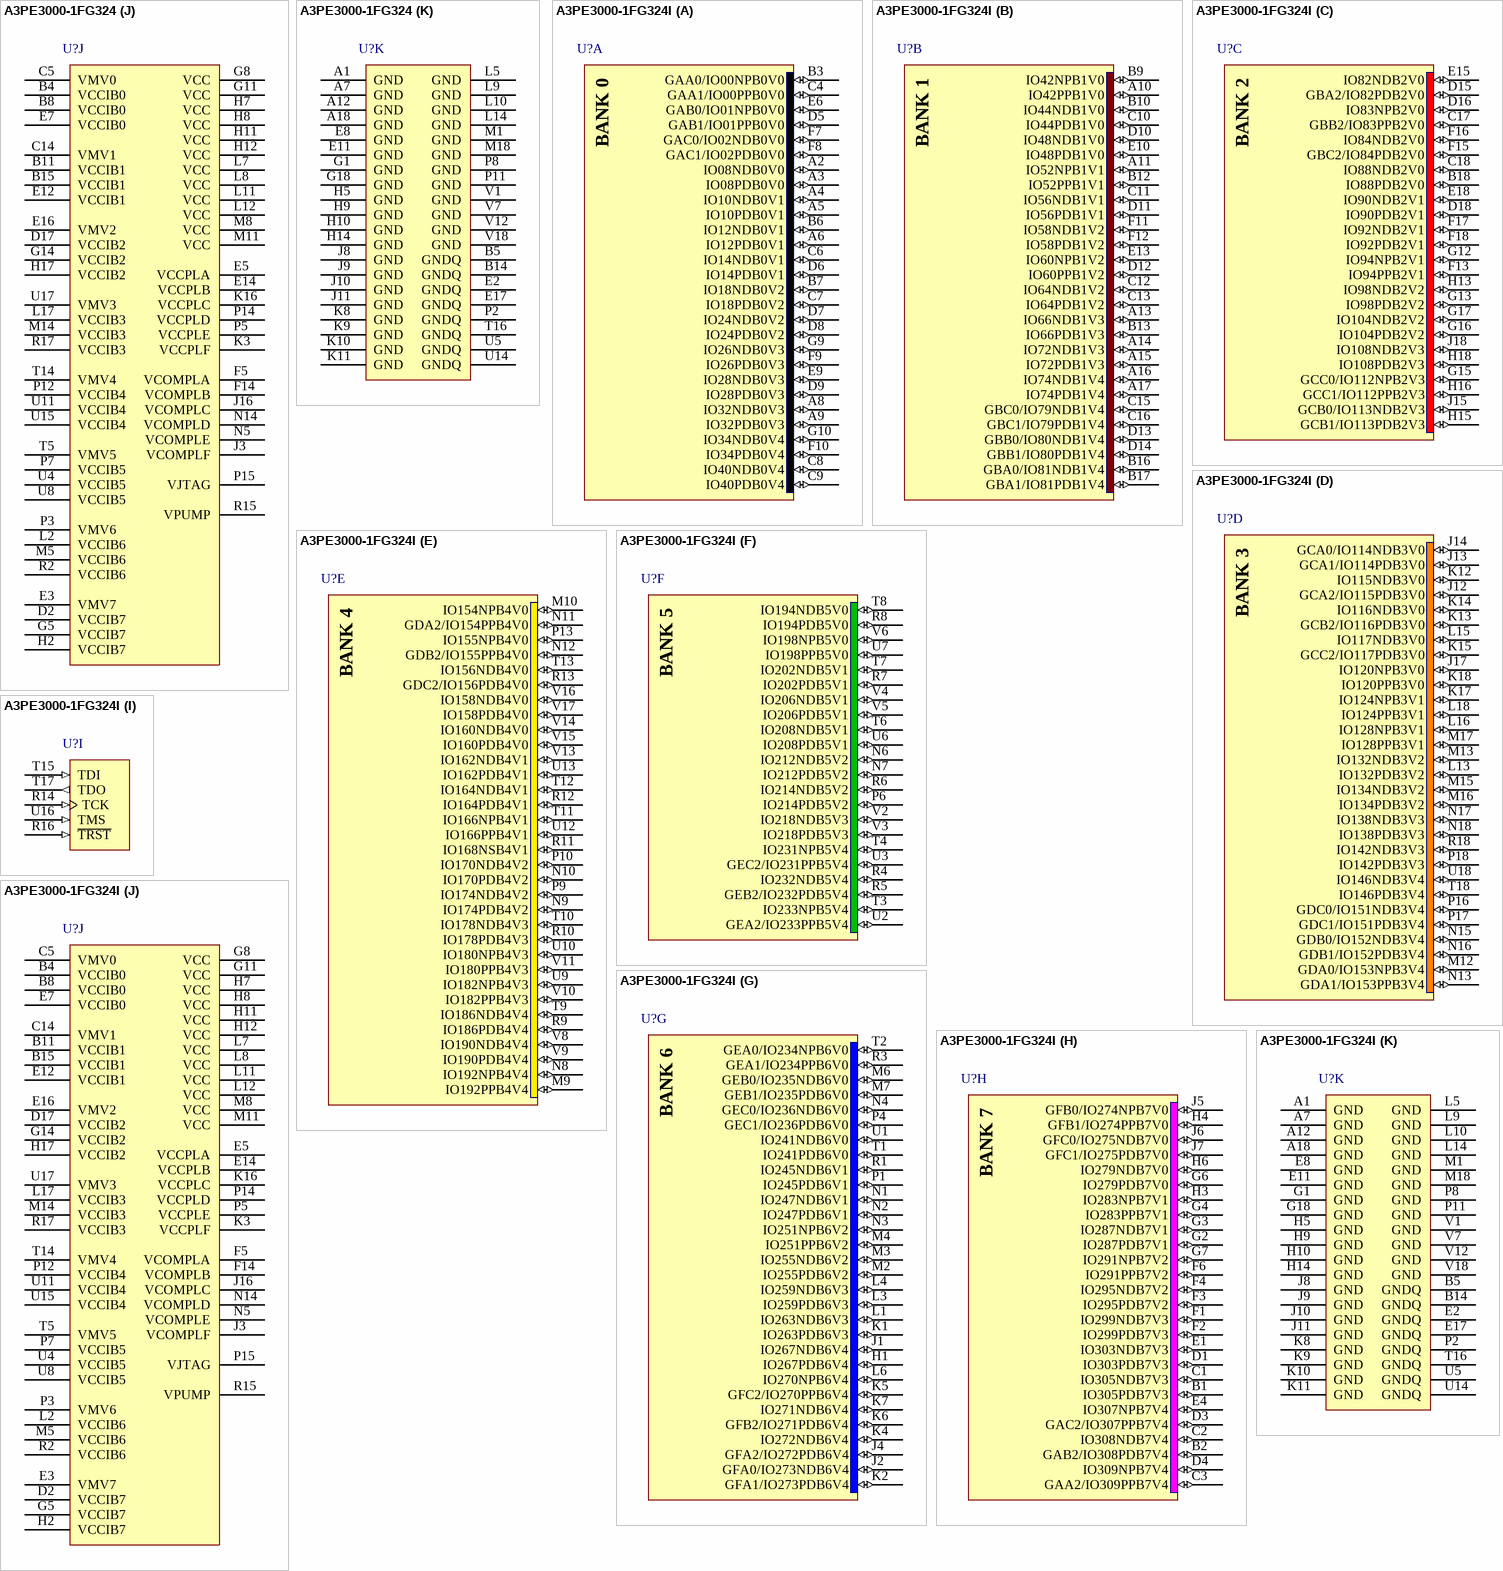
[diagram p46: symbols A3PE3000-1FG324 to A3PE3000-1FG324I]

## A3PE3000-1FG324
designator U?
ProASIC3E Flash Family FPGA, 221 User IOs, 3M System Gates, 504 Kbits RAM, 1 Kbit FlashROM, 6 PLLs, 324-Ball FBGA, Commercial Grade; Published: 26-Sep-2008; DatasheetVersion: v1.1, Feb-2009; PackageVersion: ver11.2, Nov-2009; PackageReference: FG324; Publisher: Altium Limited; PackageDescription: 324-Ball Fine Pitch Plastic Ball Grid Array (FG324); Code_JEDEC: MS-034-AAG-1; Code_IPC: BGA100P18X18-324; ComponentLink1Description: ProASIC3 Datasheet; ComponentLink1URL: http://www.actel.com/documents/PA3E_DS.pdf; ComponentLink2Description: Package Mechanical Drawings; ComponentLink2URL: http://www.actel.com/documents/PckgMechDrwngs.pdf; ComponentLink3Description: ProASIC3 Documents; ComponentLink3URL: http://www.actel.com/products/pa3/docs.aspx; ComponentLink4Description: Actel.com Home; ComponentLink4URL: http://www.actel.com/
footprint FG324 (BGA, 324-Leads, Body 19x19mm, Pitch 1mm)
signal-integrity model A3PE3000_FG324 (ProASIC3E)
part A pins: A2 IO08NDB0V0 (io), A3 IO08PDB0V0 (io), A4 IO10NDB0V1 (io), A5 IO10PDB0V1 (io), A6 IO12PDB0V1 (io), A8 IO32NDB0V3 (io), A9 IO32PDB0V3 (io), B3 GAA0/IO00NPB0V0 (io), B6 IO12NDB0V1 (io), B7 IO18NDB0V2 (io), C4 GAA1/IO00PPB0V0 (io), C6 IO14NDB0V1 (io), C7 IO18PDB0V2 (io), C8 IO40NDB0V4 (io), C9 IO40PDB0V4 (io), D5 GAB1/IO01PPB0V0 (io), D6 IO14PDB0V1 (io), D7 IO24NDB0V2 (io), D8 IO24PDB0V2 (io), D9 IO28PDB0V3 (io), E6 GAB0/IO01NPB0V0 (io), E9 IO28NDB0V3 (io), F7 GAC0/IO02NDB0V0 (io), F8 GAC1/IO02PDB0V0 (io), F9 IO26PDB0V3 (io), F10 IO34PDB0V4 (io), G9 IO26NDB0V3 (io), G10 IO34NDB0V4 (io)
part B pins: A10 IO42PPB1V0 (io), A11 IO52NPB1V1 (io), A13 IO66NDB1V3 (io), A14 IO72NDB1V3 (io), A15 IO72PDB1V3 (io), A16 IO74NDB1V4 (io), A17 IO74PDB1V4 (io), B9 IO42NPB1V0 (io), B10 IO44NDB1V0 (io), B12 IO52PPB1V1 (io), B13 IO66PDB1V3 (io), B16 GBA0/IO81NDB1V4 (io), B17 GBA1/IO81PDB1V4 (io), C10 IO44PDB1V0 (io), C11 IO56NDB1V1 (io), C12 IO64NDB1V2 (io), C13 IO64PDB1V2 (io), C15 GBC0/IO79NDB1V4 (io), C16 GBC1/IO79PDB1V4 (io), D10 IO48NDB1V0 (io), D11 IO56PDB1V1 (io), D12 IO60PPB1V2 (io), D13 GBB0/IO80NDB1V4 (io), D14 GBB1/IO80PDB1V4 (io), E10 IO48PDB1V0 (io), E13 IO60NPB1V2 (io), F11 IO58NDB1V2 (io), F12 IO58PDB1V2 (io)
part C pins: B18 IO88PDB2V0 (io), C17 GBB2/IO83PPB2V0 (io), C18 IO88NDB2V0 (io), D15 GBA2/IO82PDB2V0 (io), D16 IO83NPB2V0 (io), D18 IO90PDB2V1 (io), E15 IO82NDB2V0 (io), E18 IO90NDB2V1 (io), F13 IO94PPB2V1 (io), F15 GBC2/IO84PDB2V0 (io), F16 IO84NDB2V0 (io), F17 IO92NDB2V1 (io), F18 IO92PDB2V1 (io), G12 IO94NPB2V1 (io), G13 IO98PDB2V2 (io), G15 GCC0/IO112NPB2V3 (io), G16 IO104PDB2V2 (io), G17 IO104NDB2V2 (io), H13 IO98NDB2V2 (io), H15 GCB1/IO113PDB2V3 (io), H16 GCC1/IO112PPB2V3 (io), H18 IO108PDB2V3 (io), J15 GCB0/IO113NDB2V3 (io), J18 IO108NDB2V3 (io)
part D pins: J12 GCA2/IO115PDB3V0 (io), J13 GCA1/IO114PDB3V0 (io), J14 GCA0/IO114NDB3V0 (io), J17 IO120NPB3V0 (io), K12 IO115NDB3V0 (io), K13 GCB2/IO116PDB3V0 (io), K14 IO116NDB3V0 (io), K15 GCC2/IO117PDB3V0 (io), K17 IO124NPB3V1 (io), K18 IO120PPB3V0 (io), L13 IO132PDB3V2 (io), L15 IO117NDB3V0 (io), L16 IO128NPB3V1 (io), L18 IO124PPB3V1 (io), M12 GDA0/IO153NPB3V4 (io), M13 IO132NDB3V2 (io), M15 IO134NDB3V2 (io), M16 IO134PDB3V2 (io), M17 IO128PPB3V1 (io), N13 GDA1/IO153PPB3V4 (io), N15 GDB0/IO152NDB3V4 (io), N16 GDB1/IO152PDB3V4 (io), N17 IO138NDB3V3 (io), N18 IO138PDB3V3 (io), P16 GDC0/IO151NDB3V4 (io), P17 GDC1/IO151PDB3V4 (io), P18 IO142PDB3V3 (io), R18 IO142NDB3V3 (io), T18 IO146PDB3V4 (io), U18 IO146NDB3V4 (io)
part E pins: M9 IO192PPB4V4 (io), M10 IO154NPB4V0 (io), N8 IO192NPB4V4 (io), N9 IO174PDB4V2 (io), N10 IO170PDB4V2 (io), N11 GDA2/IO154PPB4V0 (io), N12 GDB2/IO155PPB4V0 (io), P9 IO174NDB4V2 (io), P10 IO170NDB4V2 (io), P13 IO155NPB4V0 (io), R9 IO186PDB4V4 (io), R10 IO178PDB4V3 (io), R11 IO168NSB4V1 (io), R12 IO164PDB4V1 (io), R13 GDC2/IO156PDB4V0 (io), T9 IO186NDB4V4 (io), T10 IO178NDB4V3 (io), T11 IO166NPB4V1 (io), T12 IO164NDB4V1 (io), T13 IO156NDB4V0 (io), U9 IO182NPB4V3 (io), U10 IO180NPB4V3 (io), U12 IO166PPB4V1 (io), U13 IO162PDB4V1 (io), V8 IO190NDB4V4 (io), V9 IO190PDB4V4 (io), V10 IO182PPB4V3 (io), V11 IO180PPB4V3 (io), V13 IO162NDB4V1 (io), V14 IO160NDB4V0 (io), V15 IO160PDB4V0 (io), V16 IO158NDB4V0 (io), V17 IO158PDB4V0 (io)
part F pins: N6 IO212NDB5V2 (io), N7 IO212PDB5V2 (io), P6 IO214PDB5V2 (io), R4 IO232NDB5V4 (io), R5 GEB2/IO232PDB5V4 (io), R6 IO214NDB5V2 (io), R7 IO202PDB5V1 (io), R8 IO194PDB5V0 (io), T3 IO233NPB5V4 (io), T4 IO231NPB5V4 (io), T6 IO208NDB5V1 (io), T7 IO202NDB5V1 (io), T8 IO194NDB5V0 (io), U2 GEA2/IO233PPB5V4 (io), U3 GEC2/IO231PPB5V4 (io), U6 IO208PDB5V1 (io), U7 IO198PPB5V0 (io), V2 IO218NDB5V3 (io), V3 IO218PDB5V3 (io), V4 IO206NDB5V1 (io), V5 IO206PDB5V1 (io), V6 IO198NPB5V0 (io)
part G pins: H1 IO267PDB6V4 (io), J1 IO267NDB6V4 (io), J2 GFA0/IO273NDB6V4 (io), J4 GFA2/IO272PDB6V4 (io), K1 IO263PDB6V3 (io), K2 GFA1/IO273PDB6V4 (io), K4 IO272NDB6V4 (io), K5 GFC2/IO270PPB6V4 (io), K6 GFB2/IO271PDB6V4 (io), K7 IO271NDB6V4 (io), L1 IO263NDB6V3 (io), L3 IO259PDB6V3 (io), L4 IO259NDB6V3 (io), L6 IO270NPB6V4 (io), M2 IO255PDB6V2 (io), M3 IO255NDB6V2 (io), M4 IO251PPB6V2 (io), M6 GEB0/IO235NDB6V0 (io), M7 GEB1/IO235PDB6V0 (io), N1 IO247NDB6V1 (io), N2 IO247PDB6V1 (io), N3 IO251NPB6V2 (io), N4 GEC0/IO236NDB6V0 (io), P1 IO245PDB6V1 (io), P4 GEC1/IO236PDB6V0 (io), R1 IO245NDB6V1 (io), R3 GEA1/IO234PPB6V0 (io), T1 IO241PDB6V0 (io), T2 GEA0/IO234NPB6V0 (io), U1 IO241NDB6V0 (io)
part H pins: B1 IO305PDB7V3 (io), B2 GAB2/IO308PDB7V4 (io), C1 IO305NDB7V3 (io), C2 IO308NDB7V4 (io), C3 GAA2/IO309PPB7V4 (io), D1 IO303PDB7V3 (io), D3 GAC2/IO307PPB7V4 (io), D4 IO309NPB7V4 (io), E1 IO303NDB7V3 (io), E4 IO307NPB7V4 (io), F1 IO299NDB7V3 (io), F2 IO299PDB7V3 (io), F3 IO295PDB7V2 (io), F4 IO295NDB7V2 (io), F6 IO291PPB7V2 (io), G2 IO287PDB7V1 (io), G3 IO287NDB7V1 (io), G4 IO283PPB7V1 (io), G6 IO279PDB7V0 (io), G7 IO291NPB7V2 (io), H3 IO283NPB7V1 (io), H4 GFB1/IO274PPB7V0 (io), H6 IO279NDB7V0 (io), J5 GFB0/IO274NPB7V0 (io), J6 GFC0/IO275NDB7V0 (io), J7 GFC1/IO275PDB7V0 (io)
part I pins: R14 TCK (in), R16 ~{TRST} (in), T15 TDI (in), T17 TDO (out), U16 TMS (in)
part J pins: B4 VCCIB0 (power), B8 VCCIB0 (power), B11 VCCIB1 (power), B15 VCCIB1 (power), C5 VMV0 (power), C14 VMV1 (power), D2 VCCIB7 (power), D17 VCCIB2 (power), E3 VMV7 (power), E5 VCCPLA (power), E7 VCCIB0 (power), E12 VCCIB1 (power), E14 VCCPLB (power), E16 VMV2 (power), F5 VCOMPLA (power), F14 VCOMPLB (power), G5 VCCIB7 (power), G8 VCC (power), G11 VCC (power), G14 VCCIB2 (power), H2 VCCIB7 (power), H7 VCC (power), H8 VCC (power), H11 VCC (power), H12 VCC (power), H17 VCCIB2 (power), J3 VCOMPLF (power), J16 VCOMPLC (power), K3 VCCPLF (power), K16 VCCPLC (power), L2 VCCIB6 (power), L7 VCC (power), L8 VCC (power), L11 VCC (power), L12 VCC (power), L17 VCCIB3 (power), M5 VCCIB6 (power), M8 VCC (power), M11 VCC (power), M14 VCCIB3 (power), N5 VCOMPLE (power), N14 VCOMPLD (power), P3 VMV6 (power), P5 VCCPLE (power), P7 VCCIB5 (power), P12 VCCIB4 (power), P14 VCCPLD (power), P15 VJTAG (power), R2 VCCIB6 (power), R15 VPUMP (power), R17 VCCIB3 (power), T5 VMV5 (power), T14 VMV4 (power), U4 VCCIB5 (power), U8 VCCIB5 (power), U11 VCCIB4 (power), U15 VCCIB4 (power), U17 VMV3 (power)
part K pins: A1 GND (power), A7 GND (power), A12 GND (power), A18 GND (power), B5 GNDQ (power), B14 GNDQ (power), E2 GNDQ (power), E8 GND (power), E11 GND (power), E17 GNDQ (power), G1 GND (power), G18 GND (power), H5 GND (power), H9 GND (power), H10 GND (power), H14 GND (power), J8 GND (power), J9 GND (power), J10 GND (power), J11 GND (power), K8 GND (power), K9 GND (power), K10 GND (power), K11 GND (power), L5 GND (power), L9 GND (power), L10 GND (power), L14 GND (power), M1 GND (power), M18 GND (power), P2 GNDQ (power), P8 GND (power), P11 GND (power), T16 GNDQ (power), U5 GNDQ (power), U14 GNDQ (power), V1 GND (power), V7 GND (power), V12 GND (power), V18 GND (power)
part A text: BANK 0
part B text: BANK 1
part C text: BANK 2
part D text: BANK 3
part E text: BANK 4
part F text: BANK 5
part G text: BANK 6
part H text: BANK 7

## A3PE3000-1FG324I
designator U?
ProASIC3E Flash Family FPGA, 221 User IOs, 3M System Gates, 504 Kbits RAM, 1 Kbit FlashROM, 6 PLLs, 324-Ball FBGA, Industrial Grade; Published: 26-Sep-2008; DatasheetVersion: v1.1, Feb-2009; PackageVersion: ver11.2, Nov-2009; PackageReference: FG324; Publisher: Altium Limited; PackageDescription: 324-Ball Fine Pitch Plastic Ball Grid Array (FG324); Code_JEDEC: MS-034-AAG-1; Code_IPC: BGA100P18X18-324; ComponentLink1Description: ProASIC3 Datasheet; ComponentLink1URL: http://www.actel.com/documents/PA3E_DS.pdf; ComponentLink2Description: Package Mechanical Drawings; ComponentLink2URL: http://www.actel.com/documents/PckgMechDrwngs.pdf; ComponentLink3Description: ProASIC3 Documents; ComponentLink3URL: http://www.actel.com/products/pa3/docs.aspx; ComponentLink4Description: Actel.com Home; ComponentLink4URL: http://www.actel.com/
footprint FG324 (BGA, 324-Leads, Body 19x19mm, Pitch 1mm)
signal-integrity model A3PE3000_FG324 (ProASIC3E)
part A pins: A2 IO08NDB0V0 (io), A3 IO08PDB0V0 (io), A4 IO10NDB0V1 (io), A5 IO10PDB0V1 (io), A6 IO12PDB0V1 (io), A8 IO32NDB0V3 (io), A9 IO32PDB0V3 (io), B3 GAA0/IO00NPB0V0 (io), B6 IO12NDB0V1 (io), B7 IO18NDB0V2 (io), C4 GAA1/IO00PPB0V0 (io), C6 IO14NDB0V1 (io), C7 IO18PDB0V2 (io), C8 IO40NDB0V4 (io), C9 IO40PDB0V4 (io), D5 GAB1/IO01PPB0V0 (io), D6 IO14PDB0V1 (io), D7 IO24NDB0V2 (io), D8 IO24PDB0V2 (io), D9 IO28PDB0V3 (io), E6 GAB0/IO01NPB0V0 (io), E9 IO28NDB0V3 (io), F7 GAC0/IO02NDB0V0 (io), F8 GAC1/IO02PDB0V0 (io), F9 IO26PDB0V3 (io), F10 IO34PDB0V4 (io), G9 IO26NDB0V3 (io), G10 IO34NDB0V4 (io)
part B pins: A10 IO42PPB1V0 (io), A11 IO52NPB1V1 (io), A13 IO66NDB1V3 (io), A14 IO72NDB1V3 (io), A15 IO72PDB1V3 (io), A16 IO74NDB1V4 (io), A17 IO74PDB1V4 (io), B9 IO42NPB1V0 (io), B10 IO44NDB1V0 (io), B12 IO52PPB1V1 (io), B13 IO66PDB1V3 (io), B16 GBA0/IO81NDB1V4 (io), B17 GBA1/IO81PDB1V4 (io), C10 IO44PDB1V0 (io), C11 IO56NDB1V1 (io), C12 IO64NDB1V2 (io), C13 IO64PDB1V2 (io), C15 GBC0/IO79NDB1V4 (io), C16 GBC1/IO79PDB1V4 (io), D10 IO48NDB1V0 (io), D11 IO56PDB1V1 (io), D12 IO60PPB1V2 (io), D13 GBB0/IO80NDB1V4 (io), D14 GBB1/IO80PDB1V4 (io), E10 IO48PDB1V0 (io), E13 IO60NPB1V2 (io), F11 IO58NDB1V2 (io), F12 IO58PDB1V2 (io)
part C pins: B18 IO88PDB2V0 (io), C17 GBB2/IO83PPB2V0 (io), C18 IO88NDB2V0 (io), D15 GBA2/IO82PDB2V0 (io), D16 IO83NPB2V0 (io), D18 IO90PDB2V1 (io), E15 IO82NDB2V0 (io), E18 IO90NDB2V1 (io), F13 IO94PPB2V1 (io), F15 GBC2/IO84PDB2V0 (io), F16 IO84NDB2V0 (io), F17 IO92NDB2V1 (io), F18 IO92PDB2V1 (io), G12 IO94NPB2V1 (io), G13 IO98PDB2V2 (io), G15 GCC0/IO112NPB2V3 (io), G16 IO104PDB2V2 (io), G17 IO104NDB2V2 (io), H13 IO98NDB2V2 (io), H15 GCB1/IO113PDB2V3 (io), H16 GCC1/IO112PPB2V3 (io), H18 IO108PDB2V3 (io), J15 GCB0/IO113NDB2V3 (io), J18 IO108NDB2V3 (io)
part D pins: J12 GCA2/IO115PDB3V0 (io), J13 GCA1/IO114PDB3V0 (io), J14 GCA0/IO114NDB3V0 (io), J17 IO120NPB3V0 (io), K12 IO115NDB3V0 (io), K13 GCB2/IO116PDB3V0 (io), K14 IO116NDB3V0 (io), K15 GCC2/IO117PDB3V0 (io), K17 IO124NPB3V1 (io), K18 IO120PPB3V0 (io), L13 IO132PDB3V2 (io), L15 IO117NDB3V0 (io), L16 IO128NPB3V1 (io), L18 IO124PPB3V1 (io), M12 GDA0/IO153NPB3V4 (io), M13 IO132NDB3V2 (io), M15 IO134NDB3V2 (io), M16 IO134PDB3V2 (io), M17 IO128PPB3V1 (io), N13 GDA1/IO153PPB3V4 (io), N15 GDB0/IO152NDB3V4 (io), N16 GDB1/IO152PDB3V4 (io), N17 IO138NDB3V3 (io), N18 IO138PDB3V3 (io), P16 GDC0/IO151NDB3V4 (io), P17 GDC1/IO151PDB3V4 (io), P18 IO142PDB3V3 (io), R18 IO142NDB3V3 (io), T18 IO146PDB3V4 (io), U18 IO146NDB3V4 (io)
part E pins: M9 IO192PPB4V4 (io), M10 IO154NPB4V0 (io), N8 IO192NPB4V4 (io), N9 IO174PDB4V2 (io), N10 IO170PDB4V2 (io), N11 GDA2/IO154PPB4V0 (io), N12 GDB2/IO155PPB4V0 (io), P9 IO174NDB4V2 (io), P10 IO170NDB4V2 (io), P13 IO155NPB4V0 (io), R9 IO186PDB4V4 (io), R10 IO178PDB4V3 (io), R11 IO168NSB4V1 (io), R12 IO164PDB4V1 (io), R13 GDC2/IO156PDB4V0 (io), T9 IO186NDB4V4 (io), T10 IO178NDB4V3 (io), T11 IO166NPB4V1 (io), T12 IO164NDB4V1 (io), T13 IO156NDB4V0 (io), U9 IO182NPB4V3 (io), U10 IO180NPB4V3 (io), U12 IO166PPB4V1 (io), U13 IO162PDB4V1 (io), V8 IO190NDB4V4 (io), V9 IO190PDB4V4 (io), V10 IO182PPB4V3 (io), V11 IO180PPB4V3 (io), V13 IO162NDB4V1 (io), V14 IO160NDB4V0 (io), V15 IO160PDB4V0 (io), V16 IO158NDB4V0 (io), V17 IO158PDB4V0 (io)
part F pins: N6 IO212NDB5V2 (io), N7 IO212PDB5V2 (io), P6 IO214PDB5V2 (io), R4 IO232NDB5V4 (io), R5 GEB2/IO232PDB5V4 (io), R6 IO214NDB5V2 (io), R7 IO202PDB5V1 (io), R8 IO194PDB5V0 (io), T3 IO233NPB5V4 (io), T4 IO231NPB5V4 (io), T6 IO208NDB5V1 (io), T7 IO202NDB5V1 (io), T8 IO194NDB5V0 (io), U2 GEA2/IO233PPB5V4 (io), U3 GEC2/IO231PPB5V4 (io), U6 IO208PDB5V1 (io), U7 IO198PPB5V0 (io), V2 IO218NDB5V3 (io), V3 IO218PDB5V3 (io), V4 IO206NDB5V1 (io), V5 IO206PDB5V1 (io), V6 IO198NPB5V0 (io)
part G pins: H1 IO267PDB6V4 (io), J1 IO267NDB6V4 (io), J2 GFA0/IO273NDB6V4 (io), J4 GFA2/IO272PDB6V4 (io), K1 IO263PDB6V3 (io), K2 GFA1/IO273PDB6V4 (io), K4 IO272NDB6V4 (io), K5 GFC2/IO270PPB6V4 (io), K6 GFB2/IO271PDB6V4 (io), K7 IO271NDB6V4 (io), L1 IO263NDB6V3 (io), L3 IO259PDB6V3 (io), L4 IO259NDB6V3 (io), L6 IO270NPB6V4 (io), M2 IO255PDB6V2 (io), M3 IO255NDB6V2 (io), M4 IO251PPB6V2 (io), M6 GEB0/IO235NDB6V0 (io), M7 GEB1/IO235PDB6V0 (io), N1 IO247NDB6V1 (io), N2 IO247PDB6V1 (io), N3 IO251NPB6V2 (io), N4 GEC0/IO236NDB6V0 (io), P1 IO245PDB6V1 (io), P4 GEC1/IO236PDB6V0 (io), R1 IO245NDB6V1 (io), R3 GEA1/IO234PPB6V0 (io), T1 IO241PDB6V0 (io), T2 GEA0/IO234NPB6V0 (io), U1 IO241NDB6V0 (io)
part H pins: B1 IO305PDB7V3 (io), B2 GAB2/IO308PDB7V4 (io), C1 IO305NDB7V3 (io), C2 IO308NDB7V4 (io), C3 GAA2/IO309PPB7V4 (io), D1 IO303PDB7V3 (io), D3 GAC2/IO307PPB7V4 (io), D4 IO309NPB7V4 (io), E1 IO303NDB7V3 (io), E4 IO307NPB7V4 (io), F1 IO299NDB7V3 (io), F2 IO299PDB7V3 (io), F3 IO295PDB7V2 (io), F4 IO295NDB7V2 (io), F6 IO291PPB7V2 (io), G2 IO287PDB7V1 (io), G3 IO287NDB7V1 (io), G4 IO283PPB7V1 (io), G6 IO279PDB7V0 (io), G7 IO291NPB7V2 (io), H3 IO283NPB7V1 (io), H4 GFB1/IO274PPB7V0 (io), H6 IO279NDB7V0 (io), J5 GFB0/IO274NPB7V0 (io), J6 GFC0/IO275NDB7V0 (io), J7 GFC1/IO275PDB7V0 (io)
part I pins: R14 TCK (in), R16 ~{TRST} (in), T15 TDI (in), T17 TDO (out), U16 TMS (in)
part J pins: B4 VCCIB0 (power), B8 VCCIB0 (power), B11 VCCIB1 (power), B15 VCCIB1 (power), C5 VMV0 (power), C14 VMV1 (power), D2 VCCIB7 (power), D17 VCCIB2 (power), E3 VMV7 (power), E5 VCCPLA (power), E7 VCCIB0 (power), E12 VCCIB1 (power), E14 VCCPLB (power), E16 VMV2 (power), F5 VCOMPLA (power), F14 VCOMPLB (power), G5 VCCIB7 (power), G8 VCC (power), G11 VCC (power), G14 VCCIB2 (power), H2 VCCIB7 (power), H7 VCC (power), H8 VCC (power), H11 VCC (power), H12 VCC (power), H17 VCCIB2 (power), J3 VCOMPLF (power), J16 VCOMPLC (power), K3 VCCPLF (power), K16 VCCPLC (power), L2 VCCIB6 (power), L7 VCC (power), L8 VCC (power), L11 VCC (power), L12 VCC (power), L17 VCCIB3 (power), M5 VCCIB6 (power), M8 VCC (power), M11 VCC (power), M14 VCCIB3 (power), N5 VCOMPLE (power), N14 VCOMPLD (power), P3 VMV6 (power), P5 VCCPLE (power), P7 VCCIB5 (power), P12 VCCIB4 (power), P14 VCCPLD (power), P15 VJTAG (power), R2 VCCIB6 (power), R15 VPUMP (power), R17 VCCIB3 (power), T5 VMV5 (power), T14 VMV4 (power), U4 VCCIB5 (power), U8 VCCIB5 (power), U11 VCCIB4 (power), U15 VCCIB4 (power), U17 VMV3 (power)
part K pins: A1 GND (power), A7 GND (power), A12 GND (power), A18 GND (power), B5 GNDQ (power), B14 GNDQ (power), E2 GNDQ (power), E8 GND (power), E11 GND (power), E17 GNDQ (power), G1 GND (power), G18 GND (power), H5 GND (power), H9 GND (power), H10 GND (power), H14 GND (power), J8 GND (power), J9 GND (power), J10 GND (power), J11 GND (power), K8 GND (power), K9 GND (power), K10 GND (power), K11 GND (power), L5 GND (power), L9 GND (power), L10 GND (power), L14 GND (power), M1 GND (power), M18 GND (power), P2 GNDQ (power), P8 GND (power), P11 GND (power), T16 GNDQ (power), U5 GNDQ (power), U14 GNDQ (power), V1 GND (power), V7 GND (power), V12 GND (power), V18 GND (power)
part A text: BANK 0
part B text: BANK 1
part C text: BANK 2
part D text: BANK 3
part E text: BANK 4
part F text: BANK 5
part G text: BANK 6
part H text: BANK 7

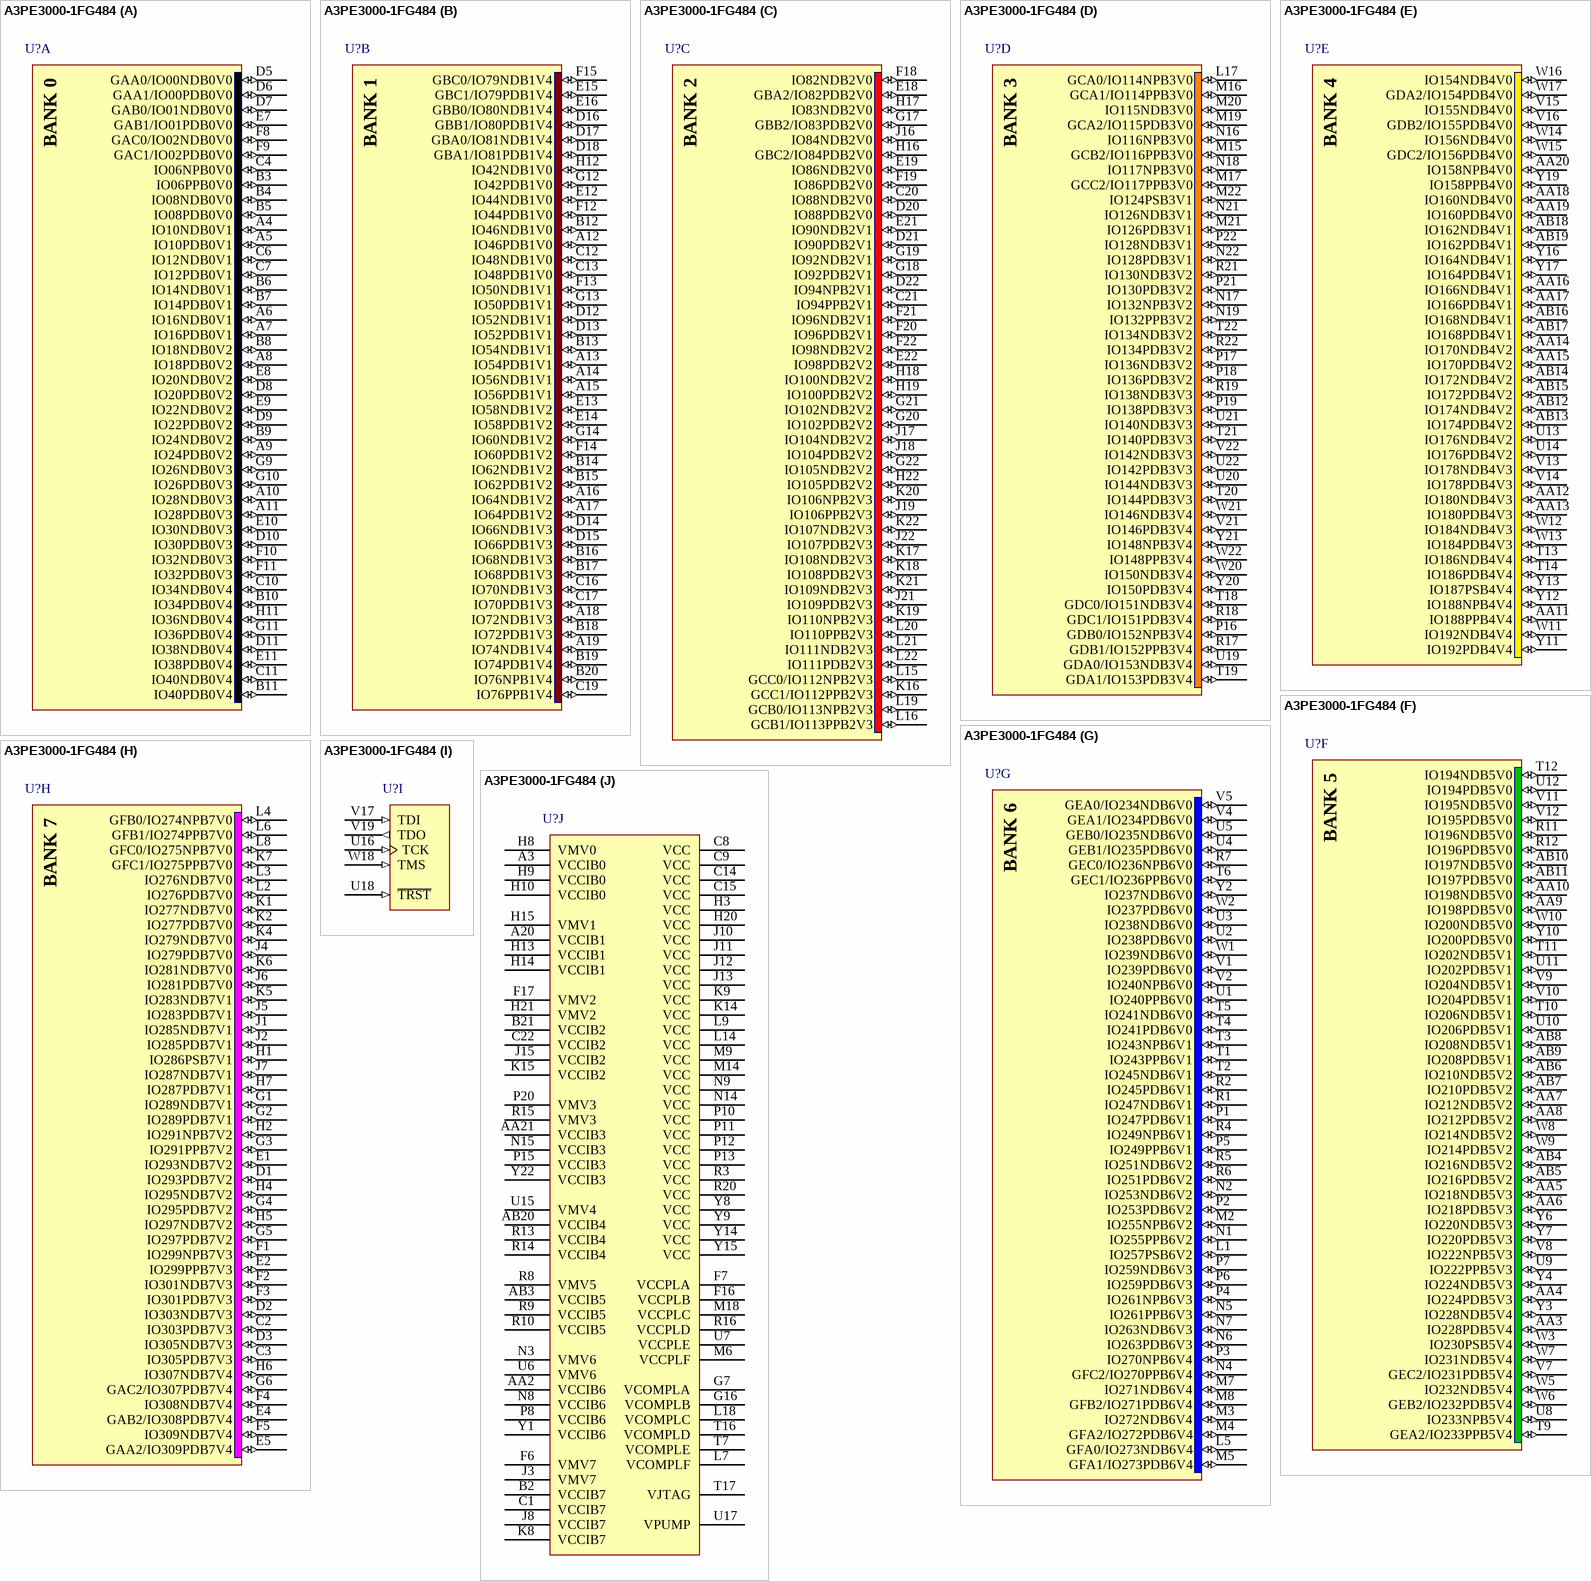
[diagram p47: symbol A3PE3000-1FG484]

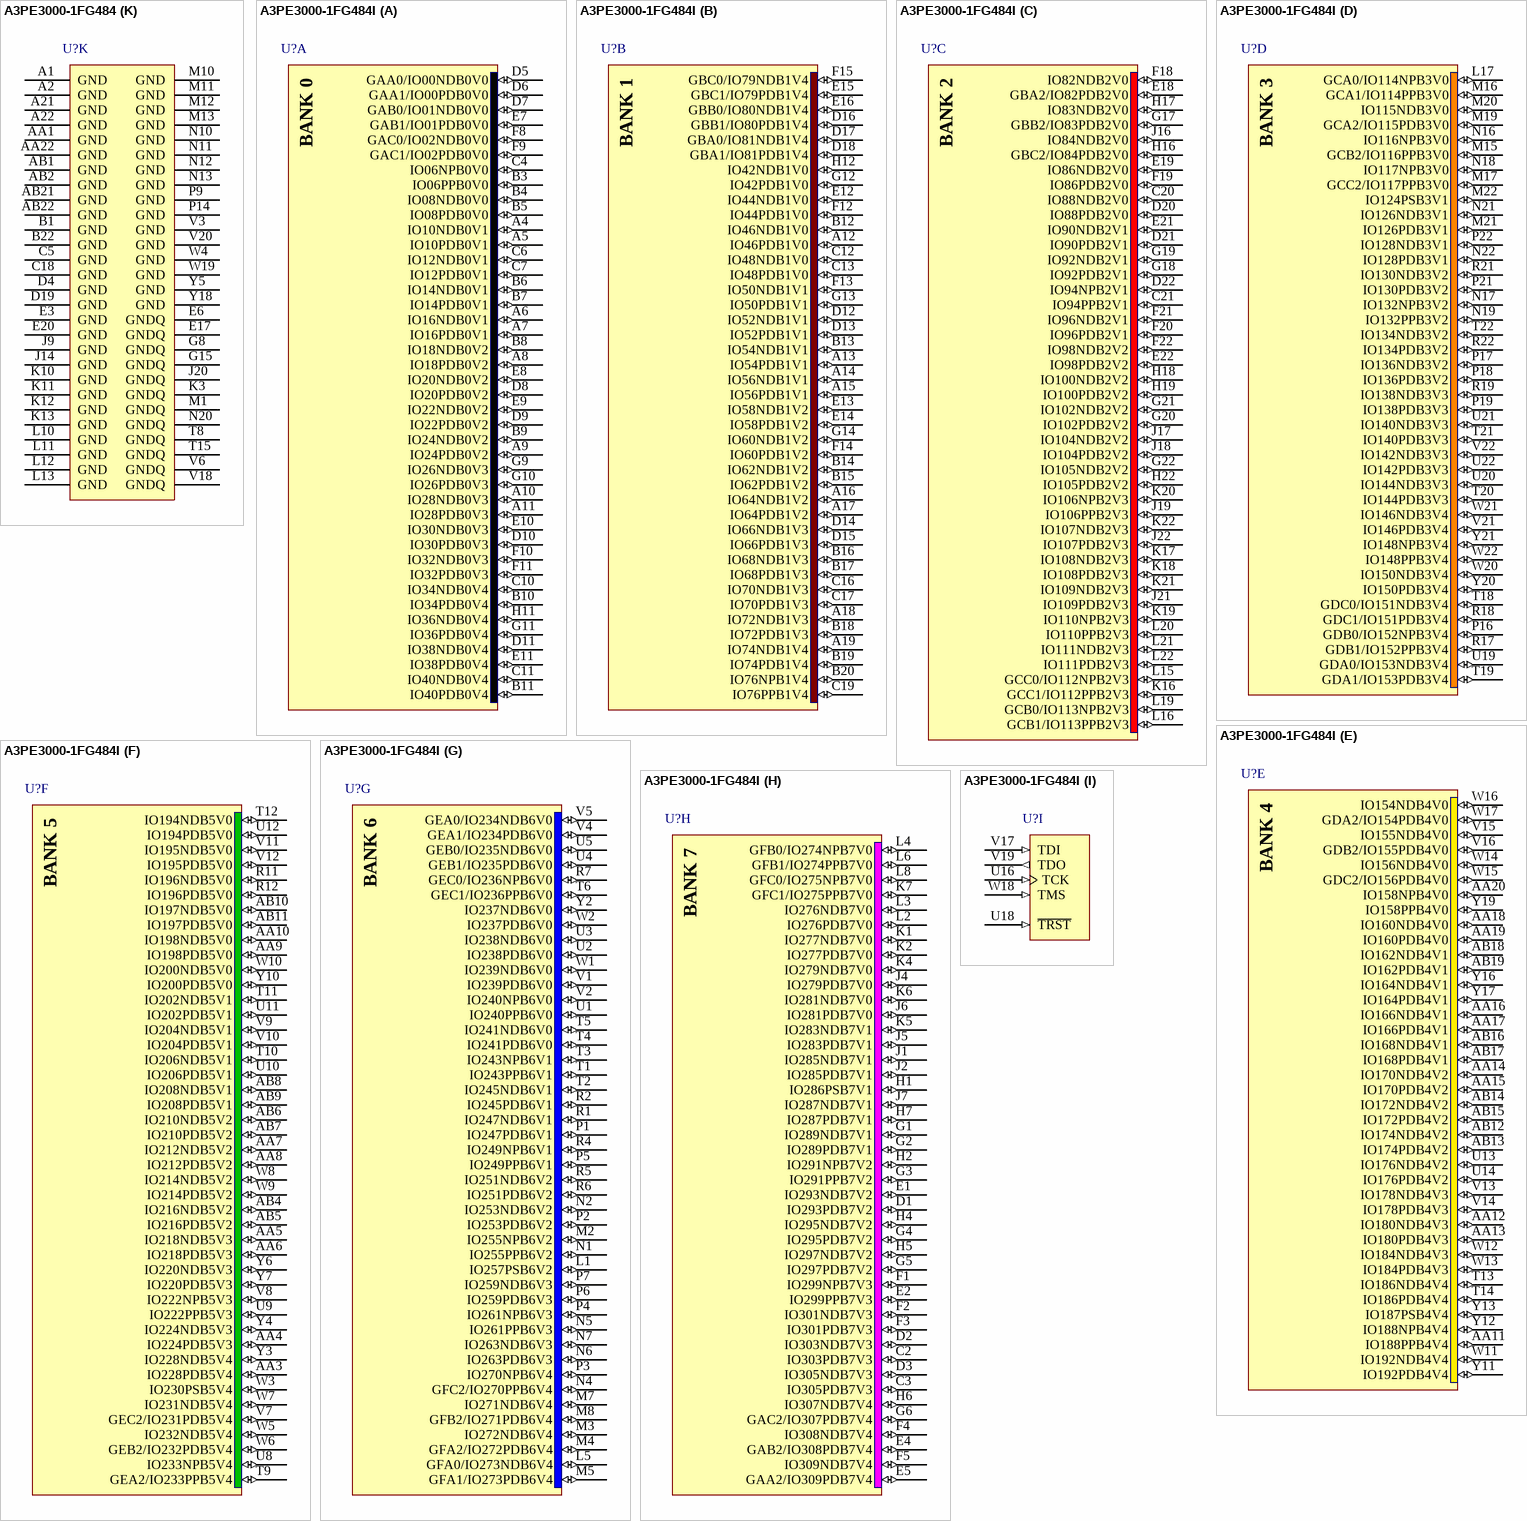
[diagram p48: symbols A3PE3000-1FG484 to A3PE3000-1FG484I]

## A3PE3000-1FG484
designator U?
ProASIC3E Flash Family FPGA, 341 User IOs, 3M System Gates, 504 Kbits RAM, 1 Kbit FlashROM, 6 PLLs, 484-Ball FBGA, Commercial Grade; Published: 26-Sep-2008; DatasheetVersion: v1.1, Feb-2009; PackageVersion: ver11.2, Nov-2009; PackageReference: FG484; Publisher: Altium Limited; PackageDescription: 484-Ball Fine Pitch Plastic Ball Grid Array (FG484) - Fully Populated; Code_JEDEC: MS-034-AAJ-1; Code_IPC: BGA100P22X22-484; ComponentLink1Description: ProASIC3 Datasheet; ComponentLink1URL: http://www.actel.com/documents/PA3E_DS.pdf; ComponentLink2Description: Package Mechanical Drawings; ComponentLink2URL: http://www.actel.com/documents/PckgMechDrwngs.pdf; ComponentLink3Description: ProASIC3 Documents; ComponentLink3URL: http://www.actel.com/products/pa3/docs.aspx; ComponentLink4Description: Actel.com Home; ComponentLink4URL: http://www.actel.com/
footprint FG484 (BGA, 484-Leads, Body 23x23mm, Pitch 1mm)
signal-integrity model A3PE3000_FG484 (ProASIC3E)
part A pins: A4 IO10NDB0V1 (io), A5 IO10PDB0V1 (io), A6 IO16NDB0V1 (io), A7 IO16PDB0V1 (io), A8 IO18PDB0V2 (io), A9 IO24PDB0V2 (io), A10 IO28NDB0V3 (io), A11 IO28PDB0V3 (io), B3 IO06PPB0V0 (io), B4 IO08NDB0V0 (io), B5 IO08PDB0V0 (io), B6 IO14NDB0V1 (io), B7 IO14PDB0V1 (io), B8 IO18NDB0V2 (io), B9 IO24NDB0V2 (io), B10 IO34PDB0V4 (io), B11 IO40PDB0V4 (io), C4 IO06NPB0V0 (io), C6 IO12NDB0V1 (io), C7 IO12PDB0V1 (io), C10 IO34NDB0V4 (io), C11 IO40NDB0V4 (io), D5 GAA0/IO00NDB0V0 (io), D6 GAA1/IO00PDB0V0 (io), D7 GAB0/IO01NDB0V0 (io), D8 IO20PDB0V2 (io), D9 IO22PDB0V2 (io), D10 IO30PDB0V3 (io), D11 IO38NDB0V4 (io), E7 GAB1/IO01PDB0V0 (io), E8 IO20NDB0V2 (io), E9 IO22NDB0V2 (io), E10 IO30NDB0V3 (io), E11 IO38PDB0V4 (io), F8 GAC0/IO02NDB0V0 (io), F9 GAC1/IO02PDB0V0 (io), F10 IO32NDB0V3 (io), F11 IO32PDB0V3 (io), G9 IO26NDB0V3 (io), G10 IO26PDB0V3 (io), G11 IO36PDB0V4 (io), H11 IO36NDB0V4 (io)
part B pins: A12 IO46PDB1V0 (io), A13 IO54PDB1V1 (io), A14 IO56NDB1V1 (io), A15 IO56PDB1V1 (io), A16 IO64NDB1V2 (io), A17 IO64PDB1V2 (io), A18 IO72NDB1V3 (io), A19 IO74NDB1V4 (io), B12 IO46NDB1V0 (io), B13 IO54NDB1V1 (io), B14 IO62NDB1V2 (io), B15 IO62PDB1V2 (io), B16 IO68NDB1V3 (io), B17 IO68PDB1V3 (io), B18 IO72PDB1V3 (io), B19 IO74PDB1V4 (io), B20 IO76NPB1V4 (io), C12 IO48NDB1V0 (io), C13 IO48PDB1V0 (io), C16 IO70NDB1V3 (io), C17 IO70PDB1V3 (io), C19 IO76PPB1V4 (io), D12 IO52NDB1V1 (io), D13 IO52PDB1V1 (io), D14 IO66NDB1V3 (io), D15 IO66PDB1V3 (io), D16 GBB1/IO80PDB1V4 (io), D17 GBA0/IO81NDB1V4 (io), D18 GBA1/IO81PDB1V4 (io), E12 IO44NDB1V0 (io), E13 IO58NDB1V2 (io), E14 IO58PDB1V2 (io), E15 GBC1/IO79PDB1V4 (io), E16 GBB0/IO80NDB1V4 (io), F12 IO44PDB1V0 (io), F13 IO50NDB1V1 (io), F14 IO60PDB1V2 (io), F15 GBC0/IO79NDB1V4 (io), G12 IO42PDB1V0 (io), G13 IO50PDB1V1 (io), G14 IO60NDB1V2 (io), H12 IO42NDB1V0 (io)
part C pins: C20 IO88NDB2V0 (io), C21 IO94PPB2V1 (io), D20 IO88PDB2V0 (io), D21 IO90PDB2V1 (io), D22 IO94NPB2V1 (io), E18 GBA2/IO82PDB2V0 (io), E19 IO86NDB2V0 (io), E21 IO90NDB2V1 (io), E22 IO98PDB2V2 (io), F18 IO82NDB2V0 (io), F19 IO86PDB2V0 (io), F20 IO96PDB2V1 (io), F21 IO96NDB2V1 (io), F22 IO98NDB2V2 (io), G17 GBB2/IO83PDB2V0 (io), G18 IO92PDB2V1 (io), G19 IO92NDB2V1 (io), G20 IO102PDB2V2 (io), G21 IO102NDB2V2 (io), G22 IO105NDB2V2 (io), H16 GBC2/IO84PDB2V0 (io), H17 IO83NDB2V0 (io), H18 IO100NDB2V2 (io), H19 IO100PDB2V2 (io), H22 IO105PDB2V2 (io), J16 IO84NDB2V0 (io), J17 IO104NDB2V2 (io), J18 IO104PDB2V2 (io), J19 IO106PPB2V3 (io), J21 IO109PDB2V3 (io), J22 IO107PDB2V3 (io), K16 GCC1/IO112PPB2V3 (io), K17 IO108NDB2V3 (io), K18 IO108PDB2V3 (io), K19 IO110NPB2V3 (io), K20 IO106NPB2V3 (io), K21 IO109NDB2V3 (io), K22 IO107NDB2V3 (io), L15 GCC0/IO112NPB2V3 (io), L16 GCB1/IO113PPB2V3 (io), L19 GCB0/IO113NPB2V3 (io), L20 IO110PPB2V3 (io), L21 IO111NDB2V3 (io), L22 IO111PDB2V3 (io)
part D pins: L17 GCA0/IO114NPB3V0 (io), M15 GCB2/IO116PPB3V0 (io), M16 GCA1/IO114PPB3V0 (io), M17 GCC2/IO117PPB3V0 (io), M19 GCA2/IO115PDB3V0 (io), M20 IO115NDB3V0 (io), M21 IO126PDB3V1 (io), M22 IO124PSB3V1 (io), N16 IO116NPB3V0 (io), N17 IO132NPB3V2 (io), N18 IO117NPB3V0 (io), N19 IO132PPB3V2 (io), N21 IO126NDB3V1 (io), N22 IO128PDB3V1 (io), P16 GDB0/IO152NPB3V4 (io), P17 IO136NDB3V2 (io), P18 IO136PDB3V2 (io), P19 IO138PDB3V3 (io), P21 IO130PDB3V2 (io), P22 IO128NDB3V1 (io), R17 GDB1/IO152PPB3V4 (io), R18 GDC1/IO151PDB3V4 (io), R19 IO138NDB3V3 (io), R21 IO130NDB3V2 (io), R22 IO134PDB3V2 (io), T18 GDC0/IO151NDB3V4 (io), T19 GDA1/IO153PDB3V4 (io), T20 IO144PDB3V3 (io), T21 IO140PDB3V3 (io), T22 IO134NDB3V2 (io), U19 GDA0/IO153NDB3V4 (io), U20 IO144NDB3V3 (io), U21 IO140NDB3V3 (io), U22 IO142PDB3V3 (io), V21 IO146PDB3V4 (io), V22 IO142NDB3V3 (io), W20 IO150NDB3V4 (io), W21 IO146NDB3V4 (io), W22 IO148PPB3V4 (io), Y20 IO150PDB3V4 (io), Y21 IO148NPB3V4 (io)
part E pins: AA11 IO188PPB4V4 (io), AA12 IO180NDB4V3 (io), AA13 IO180PDB4V3 (io), AA14 IO170NDB4V2 (io), AA15 IO170PDB4V2 (io), AA16 IO166NDB4V1 (io), AA17 IO166PDB4V1 (io), AA18 IO160NDB4V0 (io), AA19 IO160PDB4V0 (io), AA20 IO158NPB4V0 (io), AB12 IO174NDB4V2 (io), AB13 IO174PDB4V2 (io), AB14 IO172NDB4V2 (io), AB15 IO172PDB4V2 (io), AB16 IO168NDB4V1 (io), AB17 IO168PDB4V1 (io), AB18 IO162NDB4V1 (io), AB19 IO162PDB4V1 (io), T13 IO186NDB4V4 (io), T14 IO186PDB4V4 (io), U13 IO176NDB4V2 (io), U14 IO176PDB4V2 (io), V13 IO178NDB4V3 (io), V14 IO178PDB4V3 (io), V15 IO155NDB4V0 (io), V16 GDB2/IO155PDB4V0 (io), W11 IO192NDB4V4 (io), W12 IO184NDB4V3 (io), W13 IO184PDB4V3 (io), W14 IO156NDB4V0 (io), W15 GDC2/IO156PDB4V0 (io), W16 IO154NDB4V0 (io), W17 GDA2/IO154PDB4V0 (io), Y11 IO192PDB4V4 (io), Y12 IO188NPB4V4 (io), Y13 IO187PSB4V4 (io), Y16 IO164NDB4V1 (io), Y17 IO164PDB4V1 (io), Y19 IO158PPB4V0 (io)
part F pins: AA3 IO228PDB5V4 (io), AA4 IO224PDB5V3 (io), AA5 IO218NDB5V3 (io), AA6 IO218PDB5V3 (io), AA7 IO212NDB5V2 (io), AA8 IO212PDB5V2 (io), AA9 IO198PDB5V0 (io), AA10 IO198NDB5V0 (io), AB4 IO216NDB5V2 (io), AB5 IO216PDB5V2 (io), AB6 IO210NDB5V2 (io), AB7 IO210PDB5V2 (io), AB8 IO208NDB5V1 (io), AB9 IO208PDB5V1 (io), AB10 IO197NDB5V0 (io), AB11 IO197PDB5V0 (io), R11 IO196NDB5V0 (io), R12 IO196PDB5V0 (io), T9 GEA2/IO233PPB5V4 (io), T10 IO206NDB5V1 (io), T11 IO202NDB5V1 (io), T12 IO194NDB5V0 (io), U8 IO233NPB5V4 (io), U9 IO222PPB5V3 (io), U10 IO206PDB5V1 (io), U11 IO202PDB5V1 (io), U12 IO194PDB5V0 (io), V7 GEC2/IO231PDB5V4 (io), V8 IO222NPB5V3 (io), V9 IO204NDB5V1 (io), V10 IO204PDB5V1 (io), V11 IO195NDB5V0 (io), V12 IO195PDB5V0 (io), W3 IO230PSB5V4 (io), W5 IO232NDB5V4 (io), W6 GEB2/IO232PDB5V4 (io), W7 IO231NDB5V4 (io), W8 IO214NDB5V2 (io), W9 IO214PDB5V2 (io), W10 IO200NDB5V0 (io), Y3 IO228NDB5V4 (io), Y4 IO224NDB5V3 (io), Y6 IO220NDB5V3 (io), Y7 IO220PDB5V3 (io), Y10 IO200PDB5V0 (io)
part G pins: L1 IO257PSB6V2 (io), L5 GFA0/IO273NDB6V4 (io), M2 IO255NPB6V2 (io), M3 IO272NDB6V4 (io), M4 GFA2/IO272PDB6V4 (io), M5 GFA1/IO273PDB6V4 (io), M7 IO271NDB6V4 (io), M8 GFB2/IO271PDB6V4 (io), N1 IO255PPB6V2 (io), N2 IO253NDB6V2 (io), N4 GFC2/IO270PPB6V4 (io), N5 IO261PPB6V3 (io), N6 IO263PDB6V3 (io), N7 IO263NDB6V3 (io), P1 IO247PDB6V1 (io), P2 IO253PDB6V2 (io), P3 IO270NPB6V4 (io), P4 IO261NPB6V3 (io), P5 IO249PPB6V1 (io), P6 IO259PDB6V3 (io), P7 IO259NDB6V3 (io), R1 IO247NDB6V1 (io), R2 IO245PDB6V1 (io), R4 IO249NPB6V1 (io), R5 IO251NDB6V2 (io), R6 IO251PDB6V2 (io), R7 GEC0/IO236NPB6V0 (io), T1 IO243PPB6V1 (io), T2 IO245NDB6V1 (io), T3 IO243NPB6V1 (io), T4 IO241PDB6V0 (io), T5 IO241NDB6V0 (io), T6 GEC1/IO236PPB6V0 (io), U1 IO240PPB6V0 (io), U2 IO238PDB6V0 (io), U3 IO238NDB6V0 (io), U4 GEB1/IO235PDB6V0 (io), U5 GEB0/IO235NDB6V0 (io), V1 IO239PDB6V0 (io), V2 IO240NPB6V0 (io), V4 GEA1/IO234PDB6V0 (io), V5 GEA0/IO234NDB6V0 (io), W1 IO239NDB6V0 (io), W2 IO237PDB6V0 (io), Y2 IO237NDB6V0 (io)
part H pins: C2 IO303PDB7V3 (io), C3 IO305PDB7V3 (io), D1 IO293PDB7V2 (io), D2 IO303NDB7V3 (io), D3 IO305NDB7V3 (io), E1 IO293NDB7V2 (io), E2 IO299PPB7V3 (io), E4 GAB2/IO308PDB7V4 (io), E5 GAA2/IO309PDB7V4 (io), F1 IO299NPB7V3 (io), F2 IO301NDB7V3 (io), F3 IO301PDB7V3 (io), F4 IO308NDB7V4 (io), F5 IO309NDB7V4 (io), G1 IO289NDB7V1 (io), G2 IO289PDB7V1 (io), G3 IO291PPB7V2 (io), G4 IO295PDB7V2 (io), G5 IO297PDB7V2 (io), G6 GAC2/IO307PDB7V4 (io), H1 IO286PSB7V1 (io), H2 IO291NPB7V2 (io), H4 IO295NDB7V2 (io), H5 IO297NDB7V2 (io), H6 IO307NDB7V4 (io), H7 IO287PDB7V1 (io), J1 IO285NDB7V1 (io), J2 IO285PDB7V1 (io), J4 IO279PDB7V0 (io), J5 IO283PDB7V1 (io), J6 IO281PDB7V0 (io), J7 IO287NDB7V1 (io), K1 IO277NDB7V0 (io), K2 IO277PDB7V0 (io), K4 IO279NDB7V0 (io), K5 IO283NDB7V1 (io), K6 IO281NDB7V0 (io), K7 GFC1/IO275PPB7V0 (io), L2 IO276PDB7V0 (io), L3 IO276NDB7V0 (io), L4 GFB0/IO274NPB7V0 (io), L6 GFB1/IO274PPB7V0 (io), L8 GFC0/IO275NPB7V0 (io)
part I pins: U16 TCK (in), U18 ~{TRST} (in), V17 TDI (in), V19 TDO (out), W18 TMS (in)
part J pins: A3 VCCIB0 (power), A20 VCCIB1 (power), AA2 VCCIB6 (power), AA21 VCCIB3 (power), AB3 VCCIB5 (power), AB20 VCCIB4 (power), B2 VCCIB7 (power), B21 VCCIB2 (power), C1 VCCIB7 (power), C8 VCC (power), C9 VCC (power), C14 VCC (power), C15 VCC (power), C22 VCCIB2 (power), F6 VMV7 (power), F7 VCCPLA (power), F16 VCCPLB (power), F17 VMV2 (power), G7 VCOMPLA (power), G16 VCOMPLB (power), H3 VCC (power), H8 VMV0 (power), H9 VCCIB0 (power), H10 VCCIB0 (power), H13 VCCIB1 (power), H14 VCCIB1 (power), H15 VMV1 (power), H20 VCC (power), H21 VMV2 (power), J3 VMV7 (power), J8 VCCIB7 (power), J10 VCC (power), J11 VCC (power), J12 VCC (power), J13 VCC (power), J15 VCCIB2 (power), K8 VCCIB7 (power), K9 VCC (power), K14 VCC (power), K15 VCCIB2 (power), L7 VCOMPLF (power), L9 VCC (power), L14 VCC (power), L18 VCOMPLC (power), M6 VCCPLF (power), M9 VCC (power), M14 VCC (power), M18 VCCPLC (power), N3 VMV6 (power), N8 VCCIB6 (power), N9 VCC (power), N14 VCC (power), N15 VCCIB3 (power), P8 VCCIB6 (power), P10 VCC (power), P11 VCC (power), P12 VCC (power), P13 VCC (power), P15 VCCIB3 (power), P20 VMV3 (power), R3 VCC (power), R8 VMV5 (power), R9 VCCIB5 (power), R10 VCCIB5 (power), R13 VCCIB4 (power), R14 VCCIB4 (power), R15 VMV3 (power), R16 VCCPLD (power), R20 VCC (power), T7 VCOMPLE (power), T16 VCOMPLD (power), T17 VJTAG (power), U6 VMV6 (power), U7 VCCPLE (power), U15 VMV4 (power), U17 VPUMP (power), Y1 VCCIB6 (power), Y8 VCC (power), Y9 VCC (power), Y14 VCC (power), Y15 VCC (power), Y22 VCCIB3 (power)
part K pins: A1 GND (power), A2 GND (power), A21 GND (power), A22 GND (power), AA1 GND (power), AA22 GND (power), AB1 GND (power), AB2 GND (power), AB21 GND (power), AB22 GND (power), B1 GND (power), B22 GND (power), C5 GND (power), C18 GND (power), D4 GND (power), D19 GND (power), E3 GND (power), E6 GNDQ (power), E17 GNDQ (power), E20 GND (power), G8 GNDQ (power), G15 GNDQ (power), J9 GND (power), J14 GND (power), J20 GNDQ (power), K3 GNDQ (power), K10 GND (power), K11 GND (power), K12 GND (power), K13 GND (power), L10 GND (power), L11 GND (power), L12 GND (power), L13 GND (power), M1 GNDQ (power), M10 GND (power), M11 GND (power), M12 GND (power), M13 GND (power), N10 GND (power), N11 GND (power), N12 GND (power), N13 GND (power), N20 GNDQ (power), P9 GND (power), P14 GND (power), T8 GNDQ (power), T15 GNDQ (power), V3 GND (power), V6 GNDQ (power), V18 GNDQ (power), V20 GND (power), W4 GND (power), W19 GND (power), Y5 GND (power), Y18 GND (power)
part A text: BANK 0
part B text: BANK 1
part C text: BANK 2
part D text: BANK 3
part E text: BANK 4
part F text: BANK 5
part G text: BANK 6
part H text: BANK 7

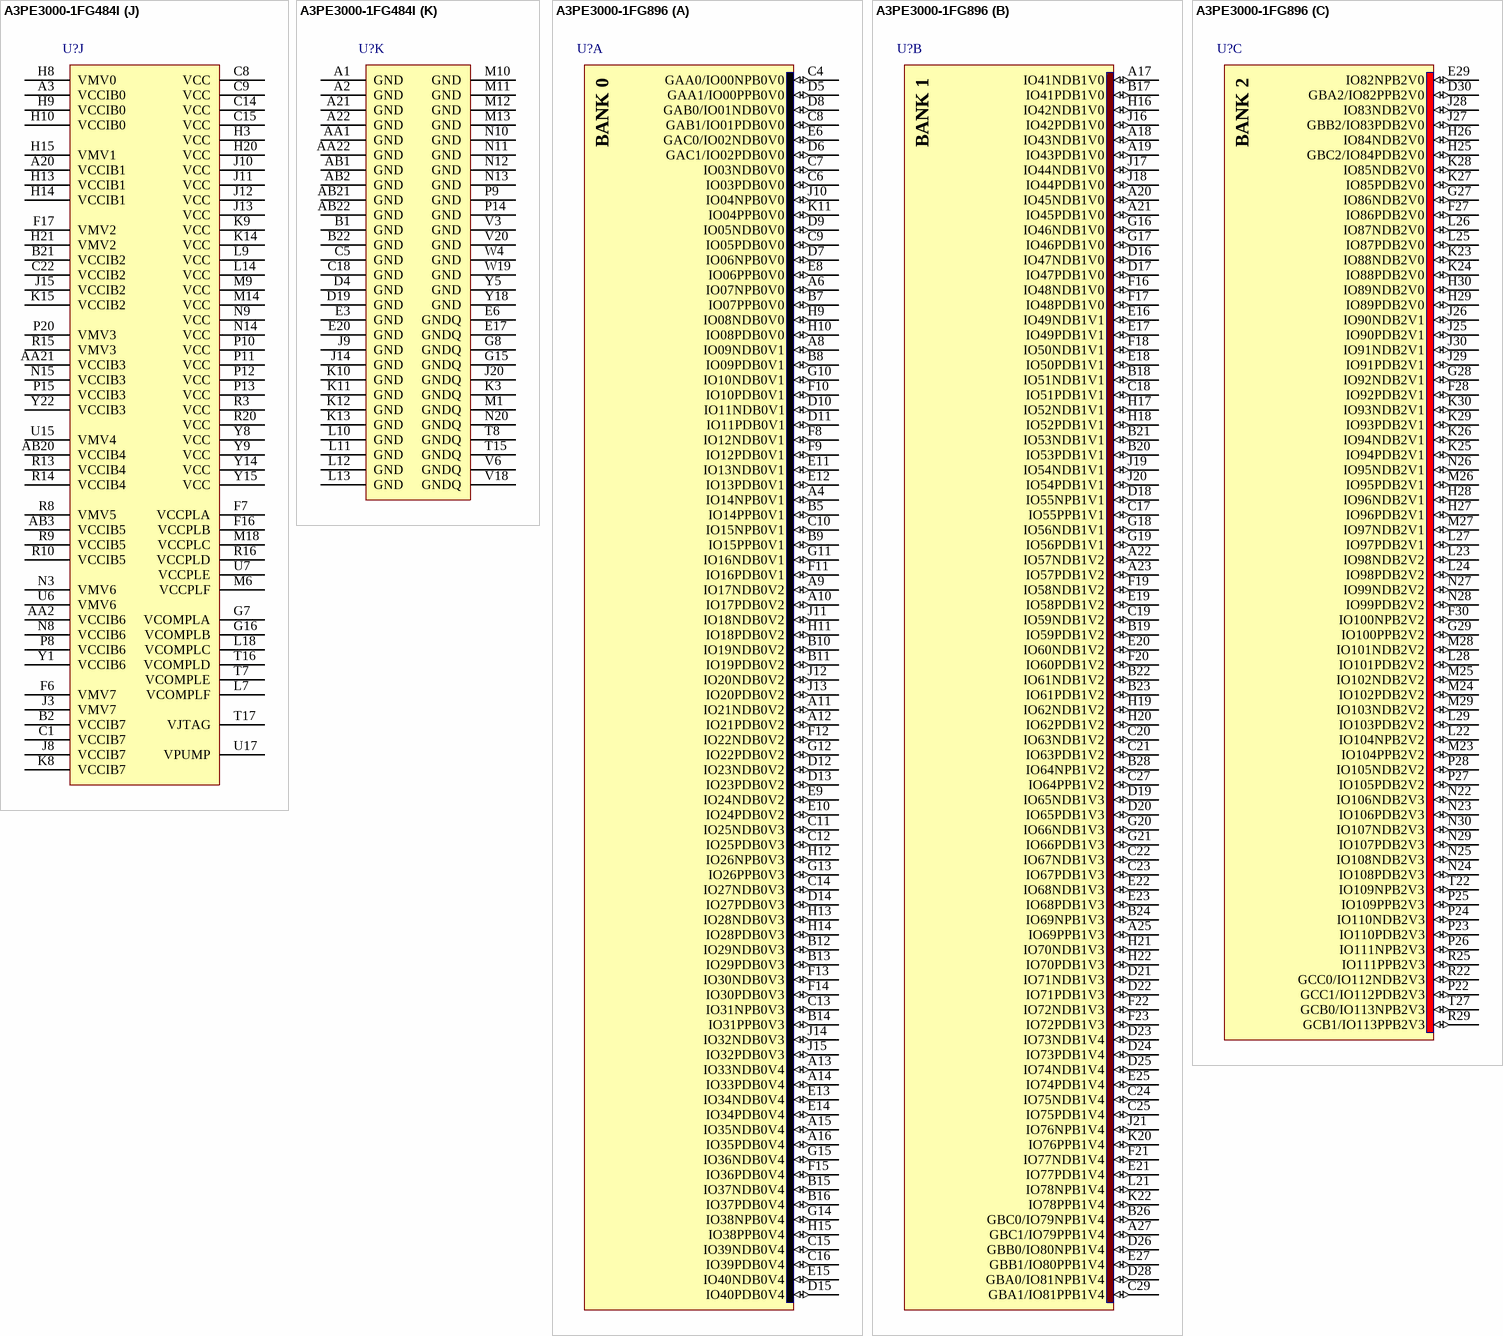
[diagram p49: symbols A3PE3000-1FG484I to A3PE3000-1FG896]